# Altium integrated library Renesas Microcontroller H8.IntLib: 489 symbols (part 10 of 25)
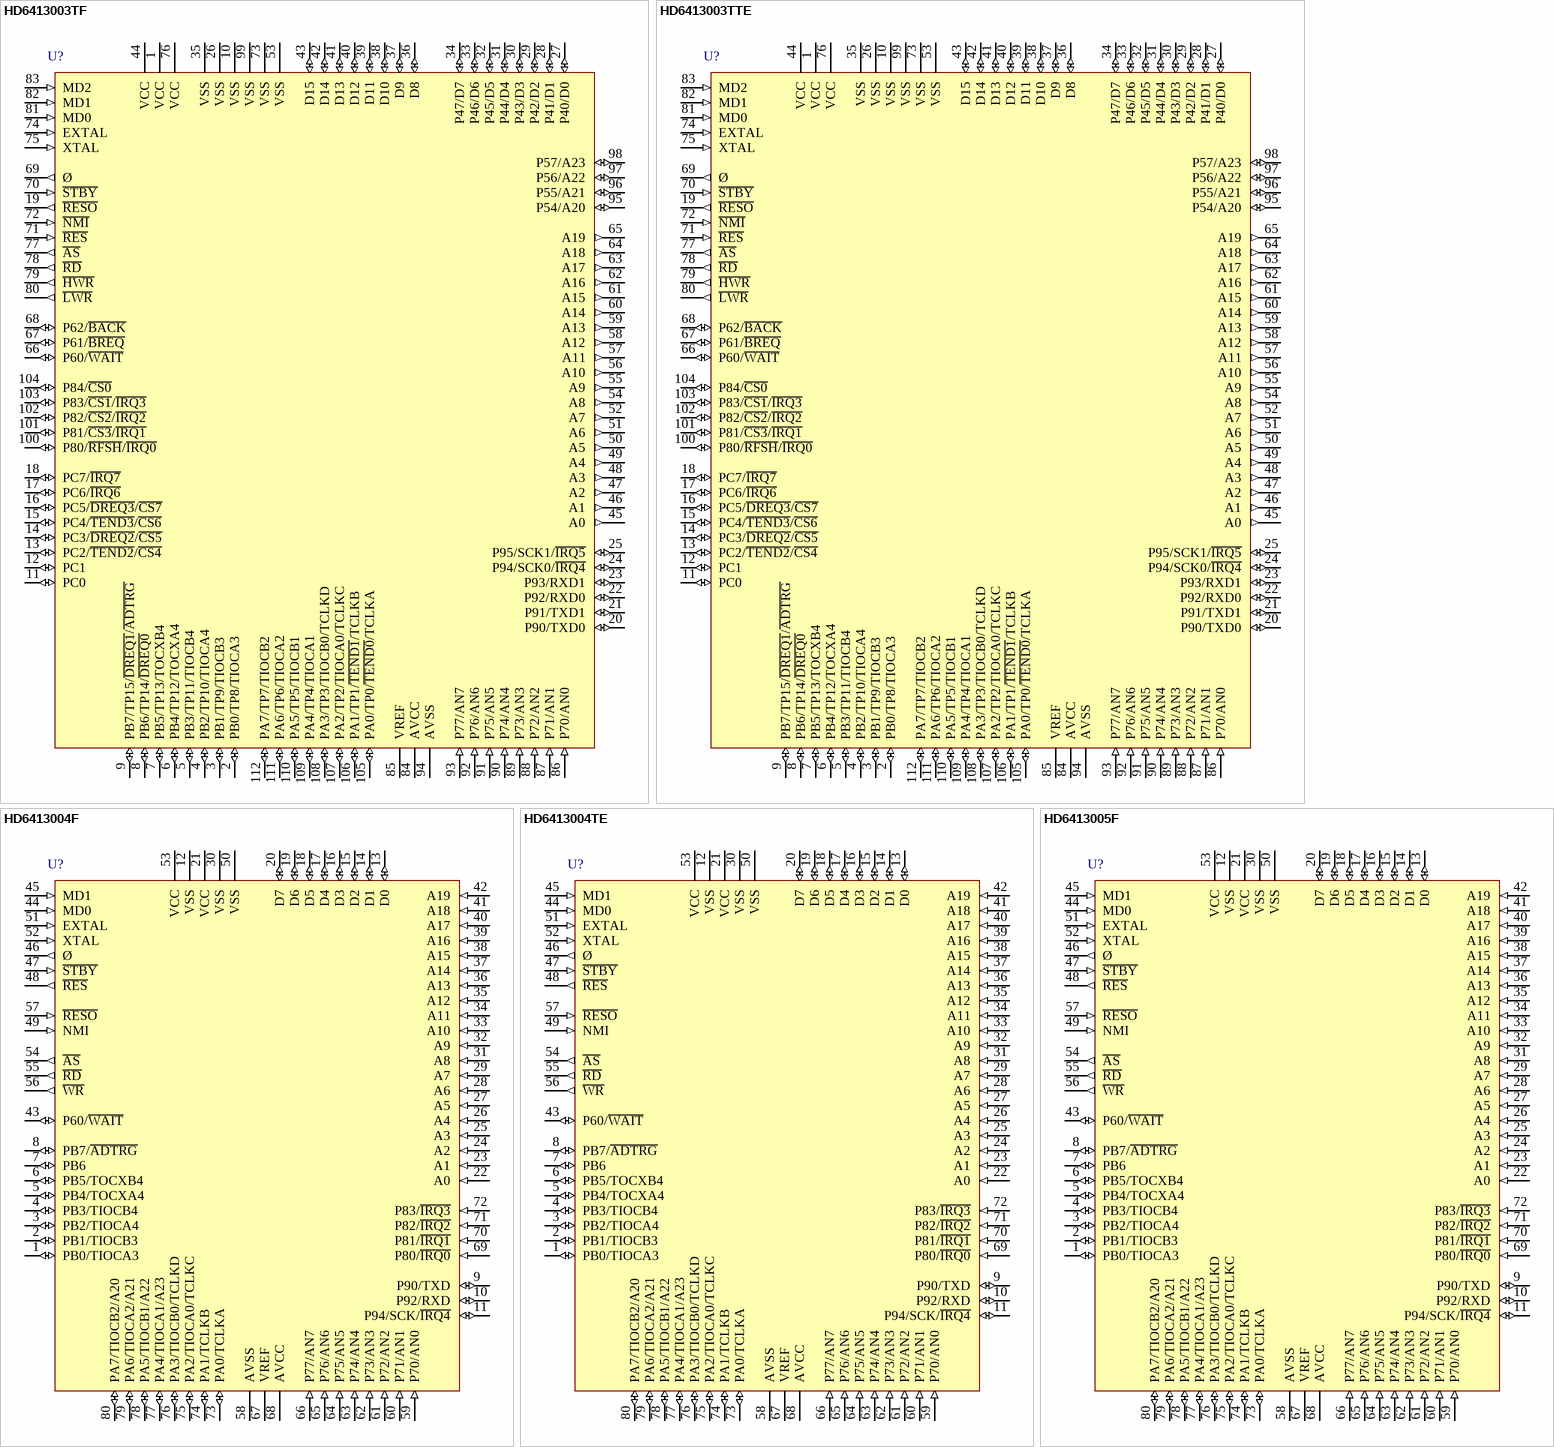
[diagram p97: symbols HD6413003TF to HD6413005F]

## HD6413003TTE
designator U?
H8 Family 32/16-bit CISC, H8/300H, 512 RAM, 16MHz, 4.5 to 5.5V, 120-Pin QFP; Published: 28-Aug-2009; DatasheetVersion: Rev.2.00, Apr-2003; PackageVersion: Sep-2005; PackageReference: PTQP0120LA-A; Publisher: Altium Limited; PackageDescription: 120-Pin Plastic Thin QFP, 14 x 14 x 1.0 mm Body, 0.4 mm Pitch; Code_JEITA: P-TQFP120-14x14-0.40; ComponentLink1Description: Manufacturer Link; ComponentLink1URL: http://sg.renesas.com/fmwk.jsp?cnt=h8_family_landing.jsp&fp=/products/mpumcu/h8_family/; ComponentLink2Description: Datasheet; ComponentLink2URL: http://documentation.renesas.com/eng/products/mpumcu/e602055_h83003.pdf; ComponentLink3Description: Packaging Specification; ComponentLink3URL: http://sg.renesas.com/media/products/common_info/package/pdf/ic/code/ptqp0120la_a.pdf
footprint PTQP0120LA-A_N (Thin QFP, 120-Leads, Body 14x14mm, Pitch 0.4mm, IPC Medium Density)
footprint PTQP0120LA-A_L (Thin QFP, 120-Leads, Body 14x14mm, Pitch 0.4mm, IPC High Density)
footprint PTQP0120LA-A_M (Thin QFP, 120-Leads, Body 14x14mm, Pitch 0.4mm, IPC Low Density)
pins: 1 VCC (power), 2 PB0/TP8/TIOCA3 (io), 3 PB1/TP9/TIOCB3 (io), 4 PB2/TP10/TIOCA4 (io), 5 PB3/TP11/TIOCB4 (io), 6 PB4/TP12/TOCXA4 (io), 7 PB5/TP13/TOCXB4 (io), 8 PB6/TP14/~{DREQ0} (io), 9 PB7/TP15/~{DREQ1}/~{ADTRG} (io), 10 VSS (power), 11 PC0 (io), 12 PC1 (io), 13 PC2/~{TEND2}/~{CS4} (io), 14 PC3/~{DREQ2}/~{CS5} (io), 15 PC4/~{TEND3}/~{CS6} (io), 16 PC5/~{DREQ3}/~{CS7} (io), 17 PC6/~{IRQ6} (io), 18 PC7/~{IRQ7} (io), 19 ~{RESO} (out), 20 P90/TXD0 (io), 21 P91/TXD1 (io), 22 P92/RXD0 (io), 23 P93/RXD1 (io), 24 P94/SCK0/~{IRQ4} (io), 25 P95/SCK1/~{IRQ5} (io), 26 VSS (power), 27 P40/D0 (io), 28 P41/D1 (io), 29 P42/D2 (io), 30 P43/D3 (io), 31 P44/D4 (io), 32 P45/D5 (io), 33 P46/D6 (io), 34 P47/D7 (io), 35 VSS (power), 36 D8 (io), 37 D9 (io), 38 D10 (io), 39 D11 (io), 40 D12 (io), 41 D13 (io), 42 D14 (io), 43 D15 (io), 44 VCC (power), 45 A0 (out), 46 A1 (out), 47 A2 (out), 48 A3 (out), 49 A4 (out), 50 A5 (out), 51 A6 (out), 52 A7 (out), 53 VSS (power), 54 A8 (out), 55 A9 (out), 56 A10 (out), 57 A11 (out), 58 A12 (out), 59 A13 (out), 60 A14 (out), 61 A15 (out), 62 A16 (out), 63 A17 (out), 64 A18 (out), 65 A19 (out), 66 P60/~{WAIT} (io), 67 P61/~{BREQ} (io), 68 P62/~{BACK} (io), 69 Ø (out), 70 ~{STBY} (in), 71 ~{RES} (in), 72 ~{NMI} (in), 73 VSS (power), 74 EXTAL (in), 75 XTAL (in), 76 VCC (power), 77 ~{AS} (out), 78 ~{RD} (out), 79 ~{HWR} (out), 80 ~{LWR} (out), 81 MD0 (in), 82 MD1 (in), 83 MD2 (in), 84 AVCC (power), 85 VREF (power), 86 P70/AN0 (in), 87 P71/AN1 (in), 88 P72/AN2 (in), 89 P73/AN3 (in), 90 P74/AN4 (in), 91 P75/AN5 (in), 92 P76/AN6 (in), 93 P77/AN7 (in), 94 AVSS (power), 95 P54/A20 (io), 96 P55/A21 (io), 97 P56/A22 (io), 98 P57/A23 (io), 99 VSS (power), 100 P80/~{RFSH}/~{IRQ0} (io), 101 P81/~{CS3}/~{IRQ1} (io), 102 P82/~{CS2}/~{IRQ2} (io), 103 P83/~{CS1}/~{IRQ3} (io), 104 P84/~{CS0} (io), 105 PA0/TP0/~{TEND0}/TCLKA (io), 106 PA1/TP1/~{TEND1}/TCLKB (io), 107 PA2/TP2/TIOCA0/TCLKC (io), 108 PA3/TP3/TIOCB0/TCLKD (io), 109 PA4/TP4/TIOCA1 (io), 110 PA5/TP5/TIOCB1 (io), 111 PA6/TP6/TIOCA2 (io), 112 PA7/TP7/TIOCB2 (io)

## HD6413004F
designator U?
H8 Family 32/16-bit CISC, H8/300H, 2K RAM, 18MHz, 4.5 to 5.5V, 80-Pin QFP; Published: 28-Aug-2009; DatasheetVersion: Sep-1995; PackageVersion: Sep-2005; PackageReference: PRQP0080JB-A; Publisher: Altium Limited; PackageDescription: 80-Pin Plastic Quad Flat Pack, 14 x 14 x 2.7 mm Body, 0.65 mm Pitch; Code_JEITA: P-QFP80-14x14-0.65; Code_IPC: QFP65P1720X1720-80; ComponentLink1Description: Manufacturer Link; ComponentLink1URL: http://sg.renesas.com/fmwk.jsp?cnt=h8_family_landing.jsp&fp=/products/mpumcu/h8_family/; ComponentLink2Description: Datasheet; ComponentLink2URL: http://documentation.renesas.com/eng/products/mpumcu/e602091_h83004.pdf; ComponentLink3Description: Packaging Specification; ComponentLink3URL: http://sg.renesas.com/media/products/common_info/package/pdf/ic/code/prqp0080jb_a.pdf
footprint PRQP0080JB-A_N (QFP, 80-Leads, Body 14x14mm, Pitch 0.65mm, IPC Medium Density)
footprint PRQP0080JB-A_L (QFP, 80-Leads, Body 14x14mm, Pitch 0.65mm, IPC High Density)
footprint PRQP0080JB-A_M (QFP, 80-Leads, Body 14x14mm, Pitch 0.65mm, IPC Low Density)
pins: 1 PB0/TIOCA3 (io), 2 PB1/TIOCB3 (io), 3 PB2/TIOCA4 (io), 4 PB3/TIOCB4 (io), 5 PB4/TOCXA4 (io), 6 PB5/TOCXB4 (io), 7 PB6 (io), 8 PB7/~{ADTRG} (io), 9 P90/TXD (io), 10 P92/RXD (io), 11 P94/SCK/~{IRQ4} (io), 12 VSS (power), 13 D0 (io), 14 D1 (io), 15 D2 (io), 16 D3 (io), 17 D4 (io), 18 D5 (io), 19 D6 (io), 20 D7 (io), 21 VCC (power), 22 A0 (in), 23 A1 (in), 24 A2 (in), 25 A3 (in), 26 A4 (in), 27 A5 (in), 28 A6 (in), 29 A7 (in), 30 VSS (power), 31 A8 (in), 32 A9 (in), 33 A10 (in), 34 A11 (in), 35 A12 (in), 36 A13 (in), 37 A14 (in), 38 A15 (in), 39 A16 (in), 40 A17 (in), 41 A18 (in), 42 A19 (in), 43 P60/~{WAIT} (io), 44 MD0 (in), 45 MD1 (in), 46 Ø (out), 47 ~{STBY} (in), 48 ~{RES} (out), 49 NMI (in), 50 VSS (power), 51 EXTAL (in), 52 XTAL (in), 53 VCC (power), 54 ~{AS} (out), 55 ~{RD} (out), 56 ~{WR} (out), 57 ~{RESO} (in), 58 AVSS (power), 59 P70/AN0 (in), 60 P71/AN1 (in), 61 P72/AN2 (in), 62 P73/AN3 (in), 63 P74/AN4 (in), 64 P75/AN5 (in), 65 P76/AN6 (in), 66 P77/AN7 (in), 67 VREF (power), 68 AVCC (power), 69 P80/~{IRQ0} (in), 70 P81/~{IRQ1} (in), 71 P82/~{IRQ2} (in), 72 P83/~{IRQ3} (in), 73 PA0/TCLKA (io), 74 PA1/TCLKB (io), 75 PA2/TIOCA0/TCLKC (io), 76 PA3/TIOCB0/TCLKD (io), 77 PA4/TIOCA1/A23 (io), 78 PA5/TIOCB1/A22 (io), 79 PA6/TIOCA2/A21 (io), 80 PA7/TIOCB2/A20 (io)

## HD6413004TE
designator U?
H8 Family 32/16-bit CISC, H8/300H, 2K RAM, 18MHz, 4.5 to 5.5V, 80-Pin QFP; Published: 28-Aug-2009; DatasheetVersion: Sep-1995; PackageVersion: Sep-2005; PackageReference: PTQP0080KC-A; Publisher: Altium Limited; PackageDescription: 80-Pin Plastic Thin Quad Flat Pack, 12 x 12 x 1.0 mm Body, 0.5 mm Pitch; Code_JEITA: P-TQFP80-12x12-0.50; ComponentLink1Description: Manufacturer Link; ComponentLink1URL: http://sg.renesas.com/fmwk.jsp?cnt=h8_family_landing.jsp&fp=/products/mpumcu/h8_family/; ComponentLink2Description: Datasheet; ComponentLink2URL: http://documentation.renesas.com/eng/products/mpumcu/e602091_h83004.pdf; ComponentLink3Description: Packaging Specification; ComponentLink3URL: http://sg.renesas.com/media/products/common_info/package/pdf/ic/code/ptqp0080kc_a.pdf
footprint PTQP0080KC-A_N (Thin QFP, 80-Leads, Body 12x12mm, Pitch 0.5mm, IPC Medium Density)
footprint PTQP0080KC-A_L (Thin QFP, 80-Leads, Body 12x12mm, Pitch 0.5mm, IPC High Density)
footprint PTQP0080KC-A_M (Thin QFP, 80-Leads, Body 12x12mm, Pitch 0.5mm, IPC Low Density)
pins: 1 PB0/TIOCA3 (io), 2 PB1/TIOCB3 (io), 3 PB2/TIOCA4 (io), 4 PB3/TIOCB4 (io), 5 PB4/TOCXA4 (io), 6 PB5/TOCXB4 (io), 7 PB6 (io), 8 PB7/~{ADTRG} (io), 9 P90/TXD (io), 10 P92/RXD (io), 11 P94/SCK/~{IRQ4} (io), 12 VSS (power), 13 D0 (io), 14 D1 (io), 15 D2 (io), 16 D3 (io), 17 D4 (io), 18 D5 (io), 19 D6 (io), 20 D7 (io), 21 VCC (power), 22 A0 (in), 23 A1 (in), 24 A2 (in), 25 A3 (in), 26 A4 (in), 27 A5 (in), 28 A6 (in), 29 A7 (in), 30 VSS (power), 31 A8 (in), 32 A9 (in), 33 A10 (in), 34 A11 (in), 35 A12 (in), 36 A13 (in), 37 A14 (in), 38 A15 (in), 39 A16 (in), 40 A17 (in), 41 A18 (in), 42 A19 (in), 43 P60/~{WAIT} (io), 44 MD0 (in), 45 MD1 (in), 46 Ø (out), 47 ~{STBY} (in), 48 ~{RES} (out), 49 NMI (in), 50 VSS (power), 51 EXTAL (in), 52 XTAL (in), 53 VCC (power), 54 ~{AS} (out), 55 ~{RD} (out), 56 ~{WR} (out), 57 ~{RESO} (in), 58 AVSS (power), 59 P70/AN0 (in), 60 P71/AN1 (in), 61 P72/AN2 (in), 62 P73/AN3 (in), 63 P74/AN4 (in), 64 P75/AN5 (in), 65 P76/AN6 (in), 66 P77/AN7 (in), 67 VREF (power), 68 AVCC (power), 69 P80/~{IRQ0} (in), 70 P81/~{IRQ1} (in), 71 P82/~{IRQ2} (in), 72 P83/~{IRQ3} (in), 73 PA0/TCLKA (io), 74 PA1/TCLKB (io), 75 PA2/TIOCA0/TCLKC (io), 76 PA3/TIOCB0/TCLKD (io), 77 PA4/TIOCA1/A23 (io), 78 PA5/TIOCB1/A22 (io), 79 PA6/TIOCA2/A21 (io), 80 PA7/TIOCB2/A20 (io)

## HD6413005F
designator U?
H8 Family 32/16-bit CISC, H8/300H, 4K RAM, 18MHz, 4.5 to 5.5V, 80-Pin QFP; Published: 28-Aug-2009; DatasheetVersion: Sep-1995; PackageVersion: Sep-2005; PackageReference: PRQP0080JB-A; Publisher: Altium Limited; PackageDescription: 80-Pin Plastic Quad Flat Pack, 14 x 14 x 2.7 mm Body, 0.65 mm Pitch; Code_JEITA: P-QFP80-14x14-0.65; Code_IPC: QFP65P1720X1720-80; ComponentLink1Description: Manufacturer Link; ComponentLink1URL: http://sg.renesas.com/fmwk.jsp?cnt=h8_family_landing.jsp&fp=/products/mpumcu/h8_family/; ComponentLink2Description: Datasheet; ComponentLink2URL: http://documentation.renesas.com/eng/products/mpumcu/e602091_h83004.pdf; ComponentLink3Description: Packaging Specification; ComponentLink3URL: http://sg.renesas.com/media/products/common_info/package/pdf/ic/code/prqp0080jb_a.pdf
footprint PRQP0080JB-A_N (QFP, 80-Leads, Body 14x14mm, Pitch 0.65mm, IPC Medium Density)
footprint PRQP0080JB-A_L (QFP, 80-Leads, Body 14x14mm, Pitch 0.65mm, IPC High Density)
footprint PRQP0080JB-A_M (QFP, 80-Leads, Body 14x14mm, Pitch 0.65mm, IPC Low Density)
pins: 1 PB0/TIOCA3 (io), 2 PB1/TIOCB3 (io), 3 PB2/TIOCA4 (io), 4 PB3/TIOCB4 (io), 5 PB4/TOCXA4 (io), 6 PB5/TOCXB4 (io), 7 PB6 (io), 8 PB7/~{ADTRG} (io), 9 P90/TXD (io), 10 P92/RXD (io), 11 P94/SCK/~{IRQ4} (io), 12 VSS (power), 13 D0 (io), 14 D1 (io), 15 D2 (io), 16 D3 (io), 17 D4 (io), 18 D5 (io), 19 D6 (io), 20 D7 (io), 21 VCC (power), 22 A0 (in), 23 A1 (in), 24 A2 (in), 25 A3 (in), 26 A4 (in), 27 A5 (in), 28 A6 (in), 29 A7 (in), 30 VSS (power), 31 A8 (in), 32 A9 (in), 33 A10 (in), 34 A11 (in), 35 A12 (in), 36 A13 (in), 37 A14 (in), 38 A15 (in), 39 A16 (in), 40 A17 (in), 41 A18 (in), 42 A19 (in), 43 P60/~{WAIT} (io), 44 MD0 (in), 45 MD1 (in), 46 Ø (out), 47 ~{STBY} (in), 48 ~{RES} (out), 49 NMI (in), 50 VSS (power), 51 EXTAL (in), 52 XTAL (in), 53 VCC (power), 54 ~{AS} (out), 55 ~{RD} (out), 56 ~{WR} (out), 57 ~{RESO} (in), 58 AVSS (power), 59 P70/AN0 (in), 60 P71/AN1 (in), 61 P72/AN2 (in), 62 P73/AN3 (in), 63 P74/AN4 (in), 64 P75/AN5 (in), 65 P76/AN6 (in), 66 P77/AN7 (in), 67 VREF (power), 68 AVCC (power), 69 P80/~{IRQ0} (in), 70 P81/~{IRQ1} (in), 71 P82/~{IRQ2} (in), 72 P83/~{IRQ3} (in), 73 PA0/TCLKA (io), 74 PA1/TCLKB (io), 75 PA2/TIOCA0/TCLKC (io), 76 PA3/TIOCB0/TCLKD (io), 77 PA4/TIOCA1/A23 (io), 78 PA5/TIOCB1/A22 (io), 79 PA6/TIOCA2/A21 (io), 80 PA7/TIOCB2/A20 (io)

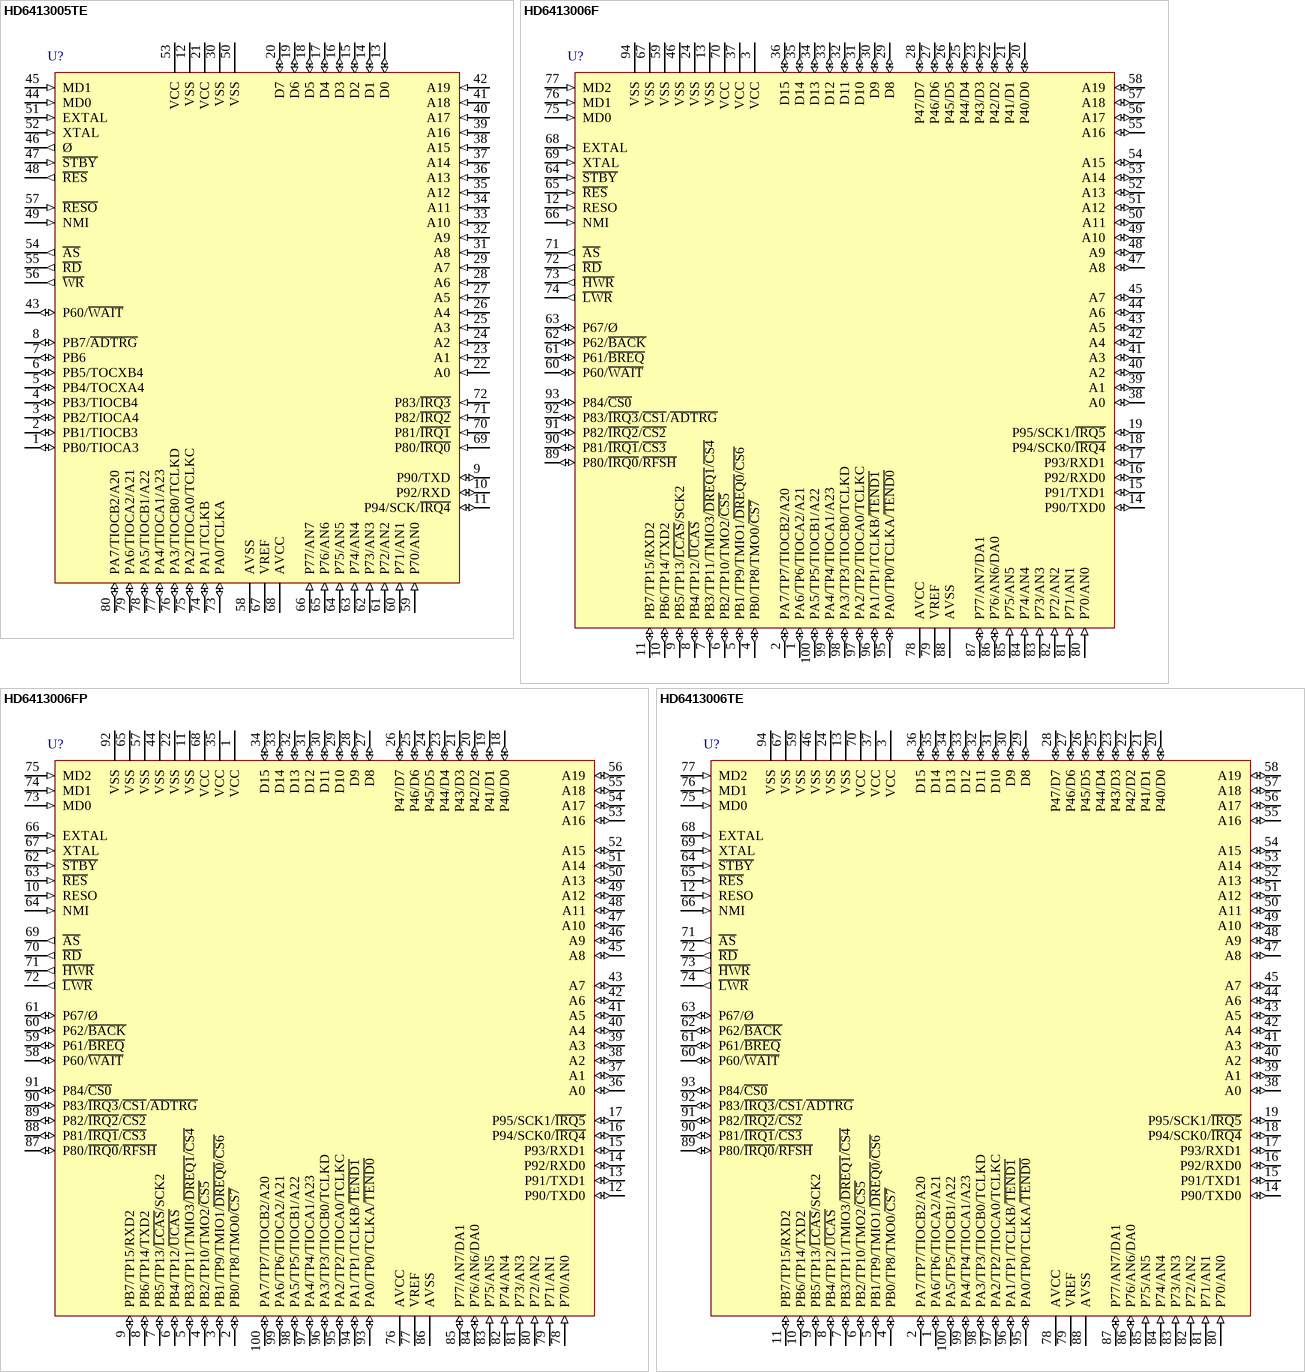
[diagram p33: symbols HD6413005TE to HD6413006TE]

## HD6413005TE
designator U?
H8 Family 32/16-bit CISC, H8/300H, 4K RAM, 18MHz, 4.5 to 5.5V, 80-Pin QFP; Published: 28-Aug-2009; DatasheetVersion: Sep-1995; PackageVersion: Sep-2005; PackageReference: PTQP0080KC-A; Publisher: Altium Limited; PackageDescription: 80-Pin Plastic Thin Quad Flat Pack, 12 x 12 x 1.0 mm Body, 0.5 mm Pitch; Code_JEITA: P-TQFP80-12x12-0.50; ComponentLink1Description: Manufacturer Link; ComponentLink1URL: http://sg.renesas.com/fmwk.jsp?cnt=h8_family_landing.jsp&fp=/products/mpumcu/h8_family/; ComponentLink2Description: Datasheet; ComponentLink2URL: http://documentation.renesas.com/eng/products/mpumcu/e602091_h83004.pdf; ComponentLink3Description: Packaging Specification; ComponentLink3URL: http://sg.renesas.com/media/products/common_info/package/pdf/ic/code/ptqp0080kc_a.pdf
footprint PTQP0080KC-A_N (Thin QFP, 80-Leads, Body 12x12mm, Pitch 0.5mm, IPC Medium Density)
footprint PTQP0080KC-A_L (Thin QFP, 80-Leads, Body 12x12mm, Pitch 0.5mm, IPC High Density)
footprint PTQP0080KC-A_M (Thin QFP, 80-Leads, Body 12x12mm, Pitch 0.5mm, IPC Low Density)
pins: 1 PB0/TIOCA3 (io), 2 PB1/TIOCB3 (io), 3 PB2/TIOCA4 (io), 4 PB3/TIOCB4 (io), 5 PB4/TOCXA4 (io), 6 PB5/TOCXB4 (io), 7 PB6 (io), 8 PB7/~{ADTRG} (io), 9 P90/TXD (io), 10 P92/RXD (io), 11 P94/SCK/~{IRQ4} (io), 12 VSS (power), 13 D0 (io), 14 D1 (io), 15 D2 (io), 16 D3 (io), 17 D4 (io), 18 D5 (io), 19 D6 (io), 20 D7 (io), 21 VCC (power), 22 A0 (in), 23 A1 (in), 24 A2 (in), 25 A3 (in), 26 A4 (in), 27 A5 (in), 28 A6 (in), 29 A7 (in), 30 VSS (power), 31 A8 (in), 32 A9 (in), 33 A10 (in), 34 A11 (in), 35 A12 (in), 36 A13 (in), 37 A14 (in), 38 A15 (in), 39 A16 (in), 40 A17 (in), 41 A18 (in), 42 A19 (in), 43 P60/~{WAIT} (io), 44 MD0 (in), 45 MD1 (in), 46 Ø (out), 47 ~{STBY} (in), 48 ~{RES} (out), 49 NMI (in), 50 VSS (power), 51 EXTAL (in), 52 XTAL (in), 53 VCC (power), 54 ~{AS} (out), 55 ~{RD} (out), 56 ~{WR} (out), 57 ~{RESO} (in), 58 AVSS (power), 59 P70/AN0 (in), 60 P71/AN1 (in), 61 P72/AN2 (in), 62 P73/AN3 (in), 63 P74/AN4 (in), 64 P75/AN5 (in), 65 P76/AN6 (in), 66 P77/AN7 (in), 67 VREF (power), 68 AVCC (power), 69 P80/~{IRQ0} (in), 70 P81/~{IRQ1} (in), 71 P82/~{IRQ2} (in), 72 P83/~{IRQ3} (in), 73 PA0/TCLKA (io), 74 PA1/TCLKB (io), 75 PA2/TIOCA0/TCLKC (io), 76 PA3/TIOCB0/TCLKD (io), 77 PA4/TIOCA1/A23 (io), 78 PA5/TIOCB1/A22 (io), 79 PA6/TIOCA2/A21 (io), 80 PA7/TIOCB2/A20 (io)

## HD6413006F
designator U?
H8 Family 32/16-bit CISC, H8/300H, 2K RAM, 20MHz, 4.5 to 5.5V, 100-Pin QFP; Published: 28-Aug-2009; DatasheetVersion: Rev.5.00, Sep-2007; PackageVersion: Sep-2009; PackageReference: PRQP0100KA-A; Publisher: Altium Limited; PackageDescription: 100-Pin Plastic Quad Flat Pack, 14 x 14 x 2.7 mm Body, 0.5 mm Pitch; Code_JEITA: P-QFP100-14x14-0.50; ComponentLink1Description: Manufacturer Link; ComponentLink1URL: http://sg.renesas.com/fmwk.jsp?cnt=h8_family_landing.jsp&fp=/products/mpumcu/h8_family/; ComponentLink2Description: Datasheet; ComponentLink2URL: http://documentation.renesas.com/eng/products/mpumcu/rej09b0396_3006_7hm.pdf; ComponentLink3Description: Packaging Specification; ComponentLink3URL: http://sg.renesas.com/media/products/common_info/package/pdf/ic/code/prqp0100ka_a.pdf
footprint PRQP0100KA-A_N (Shrink QFP, 100-Leads, Body 14x14mm, Pitch 0.5mm, IPC Medium Density)
footprint PRQP0100KA-A_L (Shrink QFP, 100-Leads, Body 14x14mm, Pitch 0.5mm, IPC High Density)
footprint PRQP0100KA-A_M (Shrink QFP, 100-Leads, Body 14x14mm, Pitch 0.5mm, IPC Low Density)
pins: 1 PA6/TP6/TIOCA2/A21 (io), 2 PA7/TP7/TIOCB2/A20 (io), 3 VCC (power), 4 PB0/TP8/TMO0/~{CS7} (io), 5 PB1/TP9/TMIO1/~{DREQ0}/~{CS6} (io), 6 PB2/TP10/TMO2/~{CS5} (io), 7 PB3/TP11/TMIO3/~{DREQ1}/~{CS4} (io), 8 PB4/TP12/~{UCAS} (io), 9 PB5/TP13/~{LCAS}/SCK2 (io), 10 PB6/TP14/TXD2 (io), 11 PB7/TP15/RXD2 (io), 12 RESO (in), 13 VSS (power), 14 P90/TXD0 (io), 15 P91/TXD1 (io), 16 P92/RXD0 (io), 17 P93/RXD1 (io), 18 P94/SCK0/~{IRQ4} (io), 19 P95/SCK1/~{IRQ5} (io), 20 P40/D0 (io), 21 P41/D1 (io), 22 P42/D2 (io), 23 P43/D3 (io), 24 VSS (power), 25 P44/D4 (io), 26 P45/D5 (io), 27 P46/D6 (io), 28 P47/D7 (io), 29 D8 (io), 30 D9 (io), 31 D10 (io), 32 D11 (io), 33 D12 (io), 34 D13 (io), 35 D14 (io), 36 D15 (io), 37 VCC (power), 38 A0 (io), 39 A1 (io), 40 A2 (io), 41 A3 (io), 42 A4 (io), 43 A5 (io), 44 A6 (io), 45 A7 (io), 46 VSS (power), 47 A8 (io), 48 A9 (io), 49 A10 (io), 50 A11 (io), 51 A12 (io), 52 A13 (io), 53 A14 (io), 54 A15 (io), 55 A16 (io), 56 A17 (io), 57 A18 (io), 58 A19 (io), 59 VSS (power), 60 P60/~{WAIT} (io), 61 P61/~{BREQ} (io), 62 P62/~{BACK} (io), 63 P67/Ø (io), 64 ~{STBY} (in), 65 ~{RES} (in), 66 NMI (in), 67 VSS (power), 68 EXTAL (in), 69 XTAL (in), 70 VCC (power), 71 ~{AS} (out), 72 ~{RD} (out), 73 ~{HWR} (out), 74 ~{LWR} (out), 75 MD0 (in), 76 MD1 (in), 77 MD2 (in), 78 AVCC (power), 79 VREF (power), 80 P70/AN0 (in), 81 P71/AN1 (in), 82 P72/AN2 (in), 83 P73/AN3 (in), 84 P74/AN4 (in), 85 P75/AN5 (in), 86 P76/AN6/DA0 (io), 87 P77/AN7/DA1 (io), 88 AVSS (power), 89 P80/~{IRQ0}/~{RFSH} (io), 90 P81/~{IRQ1}/~{CS3} (io), 91 P82/~{IRQ2}/~{CS2} (io), 92 P83/~{IRQ3}/~{CS1}/~{ADTRG} (io), 93 P84/~{CS0} (io), 94 VSS (power), 95 PA0/TP0/TCLKA/~{TEND0} (io), 96 PA1/TP1/TCLKB/~{TEND1} (io), 97 PA2/TP2/TIOCA0/TCLKC (io), 98 PA3/TP3/TIOCB0/TCLKD (io), 99 PA4/TP4/TIOCA1/A23 (io), 100 PA5/TP5/TIOCB1/A22 (io)

## HD6413006FP
designator U?
H8 Family 32/16-bit CISC, H8/300H, 2K RAM, 20MHz, 4.5 to 5.5V, 100-Pin QFP; Published: 28-Aug-2009; DatasheetVersion: Rev.5.00, Sep-2007; PackageVersion: Sep-2005; PackageReference: PRQP0100JE-B; Publisher: Altium Limited; PackageDescription: 100-Pin Plastic Quad Flat Pack, 20 x 14 x 2.7 mm Body, 0.65 mm Pitch; Code_JEITA: P-QFP100-14x20-0.65; ComponentLink1Description: Manufacturer Link; ComponentLink1URL: http://sg.renesas.com/fmwk.jsp?cnt=h8_family_landing.jsp&fp=/products/mpumcu/h8_family/; ComponentLink2Description: Datasheet; ComponentLink2URL: http://documentation.renesas.com/eng/products/mpumcu/rej09b0396_3006_7hm.pdf; ComponentLink3Description: Packaging Specification; ComponentLink3URL: http://sg.renesas.com/media/products/common_info/package/pdf/ic/code/prqp0100je_b.pdf
footprint PRQP0100JE-B_N (QFP, 100-Leads, Body 20x14mm, Pitch 0.65mm, IPC Medium Density)
footprint PRQP0100JE-B_L (QFP, 100-Leads, Body 20x14mm, Pitch 0.65mm, IPC High Density)
footprint PRQP0100JE-B_M (QFP, 100-Leads, Body 20x14mm, Pitch 0.65mm, IPC Low Density)
pins: 1 VCC (power), 2 PB0/TP8/TMO0/~{CS7} (io), 3 PB1/TP9/TMIO1/~{DREQ0}/~{CS6} (io), 4 PB2/TP10/TMO2/~{CS5} (io), 5 PB3/TP11/TMIO3/~{DREQ1}/~{CS4} (io), 6 PB4/TP12/~{UCAS} (io), 7 PB5/TP13/~{LCAS}/SCK2 (io), 8 PB6/TP14/TXD2 (io), 9 PB7/TP15/RXD2 (io), 10 RESO (in), 11 VSS (power), 12 P90/TXD0 (io), 13 P91/TXD1 (io), 14 P92/RXD0 (io), 15 P93/RXD1 (io), 16 P94/SCK0/~{IRQ4} (io), 17 P95/SCK1/~{IRQ5} (io), 18 P40/D0 (io), 19 P41/D1 (io), 20 P42/D2 (io), 21 P43/D3 (io), 22 VSS (power), 23 P44/D4 (io), 24 P45/D5 (io), 25 P46/D6 (io), 26 P47/D7 (io), 27 D8 (io), 28 D9 (io), 29 D10 (io), 30 D11 (io), 31 D12 (io), 32 D13 (io), 33 D14 (io), 34 D15 (io), 35 VCC (power), 36 A0 (io), 37 A1 (io), 38 A2 (io), 39 A3 (io), 40 A4 (io), 41 A5 (io), 42 A6 (io), 43 A7 (io), 44 VSS (power), 45 A8 (io), 46 A9 (io), 47 A10 (io), 48 A11 (io), 49 A12 (io), 50 A13 (io), 51 A14 (io), 52 A15 (io), 53 A16 (io), 54 A17 (io), 55 A18 (io), 56 A19 (io), 57 VSS (power), 58 P60/~{WAIT} (io), 59 P61/~{BREQ} (io), 60 P62/~{BACK} (io), 61 P67/Ø (io), 62 ~{STBY} (in), 63 ~{RES} (in), 64 NMI (in), 65 VSS (power), 66 EXTAL (in), 67 XTAL (in), 68 VCC (power), 69 ~{AS} (out), 70 ~{RD} (out), 71 ~{HWR} (out), 72 ~{LWR} (out), 73 MD0 (in), 74 MD1 (in), 75 MD2 (in), 76 AVCC (power), 77 VREF (power), 78 P70/AN0 (in), 79 P71/AN1 (in), 80 P72/AN2 (in), 81 P73/AN3 (in), 82 P74/AN4 (in), 83 P75/AN5 (in), 84 P76/AN6/DA0 (io), 85 P77/AN7/DA1 (io), 86 AVSS (power), 87 P80/~{IRQ0}/~{RFSH} (io), 88 P81/~{IRQ1}/~{CS3} (io), 89 P82/~{IRQ2}/~{CS2} (io), 90 P83/~{IRQ3}/~{CS1}/~{ADTRG} (io), 91 P84/~{CS0} (io), 92 VSS (power), 93 PA0/TP0/TCLKA/~{TEND0} (io), 94 PA1/TP1/TCLKB/~{TEND1} (io), 95 PA2/TP2/TIOCA0/TCLKC (io), 96 PA3/TP3/TIOCB0/TCLKD (io), 97 PA4/TP4/TIOCA1/A23 (io), 98 PA5/TP5/TIOCB1/A22 (io), 99 PA6/TP6/TIOCA2/A21 (io), 100 PA7/TP7/TIOCB2/A20 (io)

## HD6413006TE
designator U?
H8 Family 32/16-bit CISC, H8/300H, 2K RAM, 20MHz, 4.5 to 5.5V, 100-Pin QFP; Published: 28-Aug-2009; DatasheetVersion: Rev.5.00, Sep-2007; PackageVersion: Sep-2005; PackageReference: PTQP0100KA-A; Publisher: Altium Limited; PackageDescription: 100-Pin Plastic Thin Quad Flat Pack, 14 x 14 x 1.0 mm Body, 0.5 mm Pitch; Code_JEITA: P-TQFP100-14x14-0.50; ComponentLink1Description: Manufacturer Link; ComponentLink1URL: http://sg.renesas.com/fmwk.jsp?cnt=h8_family_landing.jsp&fp=/products/mpumcu/h8_family/; ComponentLink2Description: Datasheet; ComponentLink2URL: http://documentation.renesas.com/eng/products/mpumcu/rej09b0396_3006_7hm.pdf; ComponentLink3Description: Packaging Specification; ComponentLink3URL: http://sg.renesas.com/media/products/common_info/package/pdf/ic/code/ptqp0100ka_a.pdf
footprint PTQP0100KA-A_N (Thin QFP, 100-Leads, Body 14x14mm, Pitch 0.5mm, IPC Medium Density)
footprint PTQP0100KA-A_L (Thin QFP, 100-Leads, Body 14x14mm, Pitch 0.5mm, IPC High Density)
footprint PTQP0100KA-A_M (Thin QFP, 100-Leads, Body 14x14mm, Pitch 0.5mm, IPC Low Density)
pins: 1 PA6/TP6/TIOCA2/A21 (io), 2 PA7/TP7/TIOCB2/A20 (io), 3 VCC (power), 4 PB0/TP8/TMO0/~{CS7} (io), 5 PB1/TP9/TMIO1/~{DREQ0}/~{CS6} (io), 6 PB2/TP10/TMO2/~{CS5} (io), 7 PB3/TP11/TMIO3/~{DREQ1}/~{CS4} (io), 8 PB4/TP12/~{UCAS} (io), 9 PB5/TP13/~{LCAS}/SCK2 (io), 10 PB6/TP14/TXD2 (io), 11 PB7/TP15/RXD2 (io), 12 RESO (in), 13 VSS (power), 14 P90/TXD0 (io), 15 P91/TXD1 (io), 16 P92/RXD0 (io), 17 P93/RXD1 (io), 18 P94/SCK0/~{IRQ4} (io), 19 P95/SCK1/~{IRQ5} (io), 20 P40/D0 (io), 21 P41/D1 (io), 22 P42/D2 (io), 23 P43/D3 (io), 24 VSS (power), 25 P44/D4 (io), 26 P45/D5 (io), 27 P46/D6 (io), 28 P47/D7 (io), 29 D8 (io), 30 D9 (io), 31 D10 (io), 32 D11 (io), 33 D12 (io), 34 D13 (io), 35 D14 (io), 36 D15 (io), 37 VCC (power), 38 A0 (io), 39 A1 (io), 40 A2 (io), 41 A3 (io), 42 A4 (io), 43 A5 (io), 44 A6 (io), 45 A7 (io), 46 VSS (power), 47 A8 (io), 48 A9 (io), 49 A10 (io), 50 A11 (io), 51 A12 (io), 52 A13 (io), 53 A14 (io), 54 A15 (io), 55 A16 (io), 56 A17 (io), 57 A18 (io), 58 A19 (io), 59 VSS (power), 60 P60/~{WAIT} (io), 61 P61/~{BREQ} (io), 62 P62/~{BACK} (io), 63 P67/Ø (io), 64 ~{STBY} (in), 65 ~{RES} (in), 66 NMI (in), 67 VSS (power), 68 EXTAL (in), 69 XTAL (in), 70 VCC (power), 71 ~{AS} (out), 72 ~{RD} (out), 73 ~{HWR} (out), 74 ~{LWR} (out), 75 MD0 (in), 76 MD1 (in), 77 MD2 (in), 78 AVCC (power), 79 VREF (power), 80 P70/AN0 (in), 81 P71/AN1 (in), 82 P72/AN2 (in), 83 P73/AN3 (in), 84 P74/AN4 (in), 85 P75/AN5 (in), 86 P76/AN6/DA0 (io), 87 P77/AN7/DA1 (io), 88 AVSS (power), 89 P80/~{IRQ0}/~{RFSH} (io), 90 P81/~{IRQ1}/~{CS3} (io), 91 P82/~{IRQ2}/~{CS2} (io), 92 P83/~{IRQ3}/~{CS1}/~{ADTRG} (io), 93 P84/~{CS0} (io), 94 VSS (power), 95 PA0/TP0/TCLKA/~{TEND0} (io), 96 PA1/TP1/TCLKB/~{TEND1} (io), 97 PA2/TP2/TIOCA0/TCLKC (io), 98 PA3/TP3/TIOCB0/TCLKD (io), 99 PA4/TP4/TIOCA1/A23 (io), 100 PA5/TP5/TIOCB1/A22 (io)

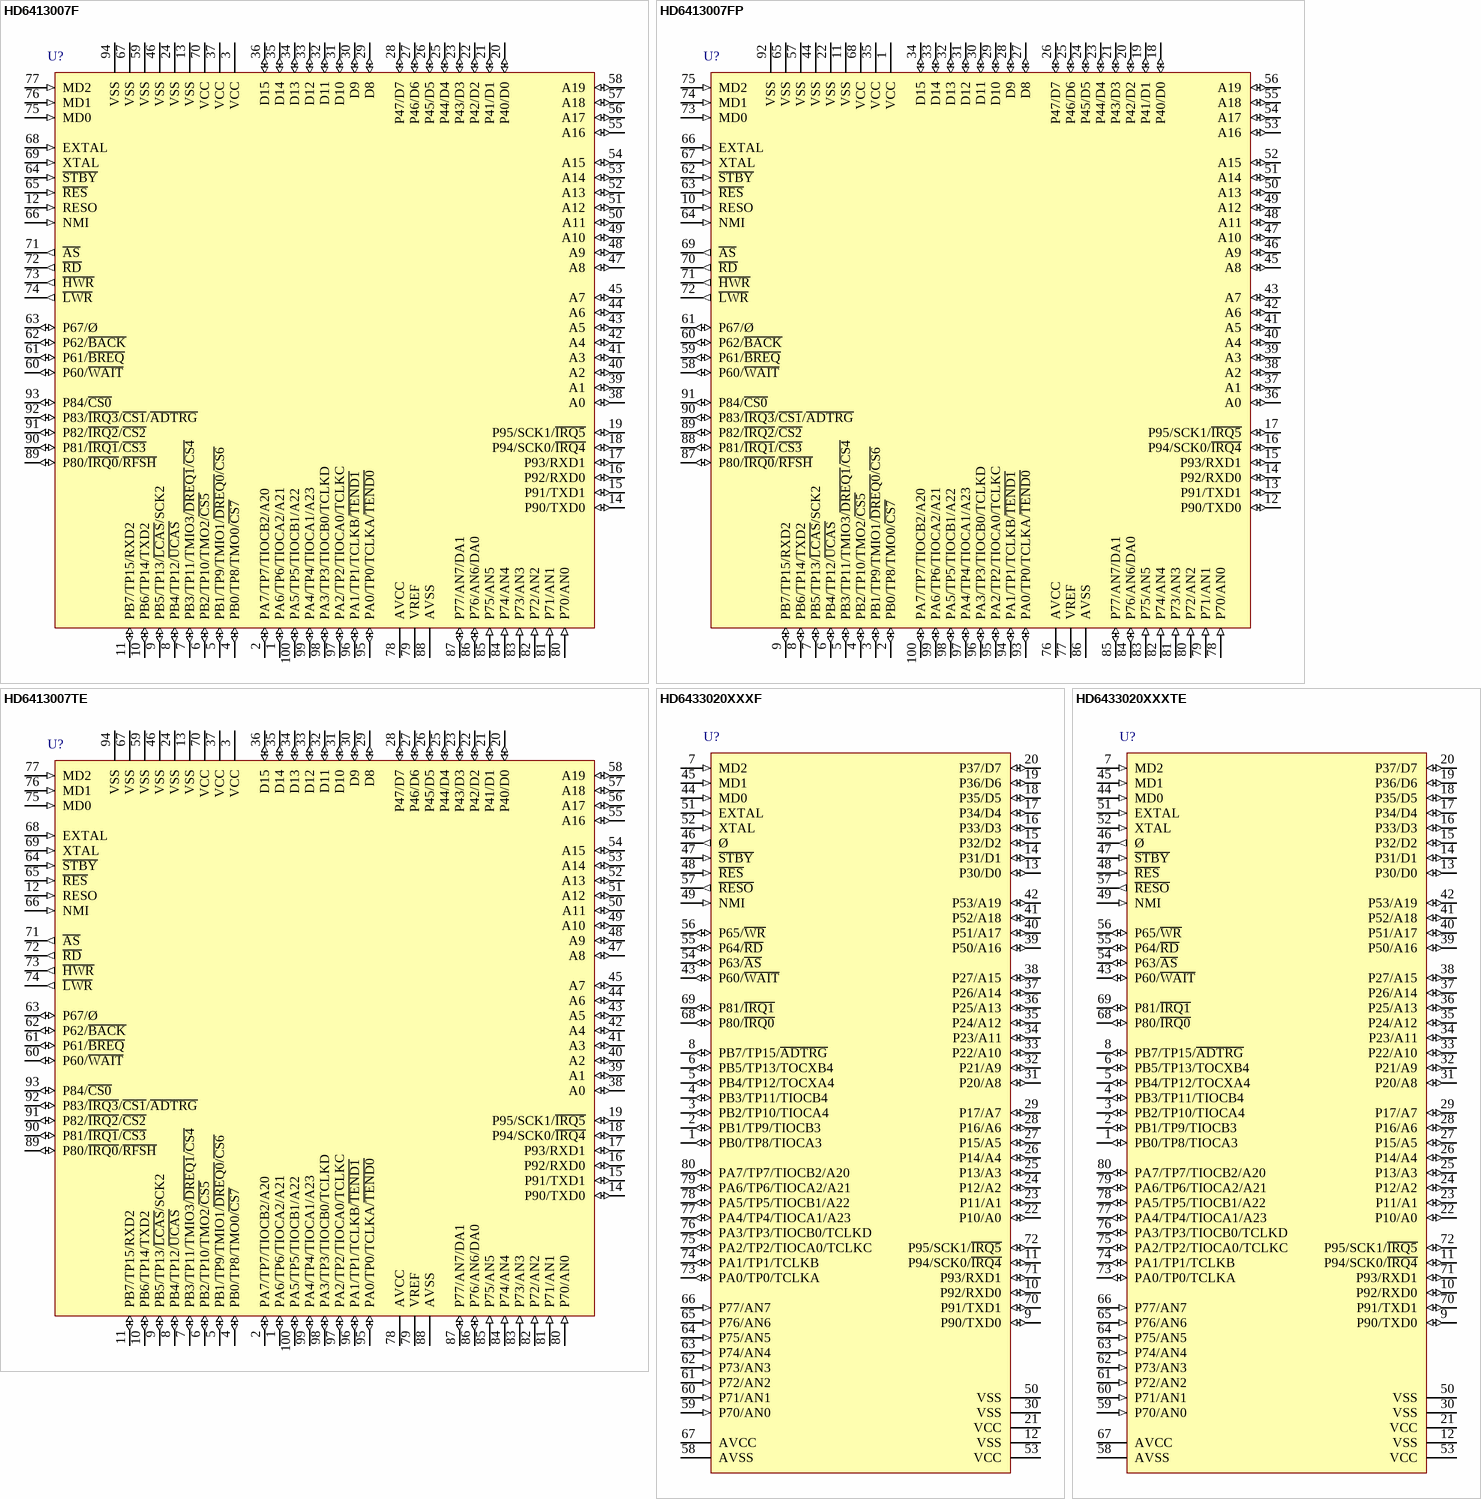
[diagram p34: symbols HD6413007F to HD6433020XXXTE]

## HD6413007F
designator U?
H8 Family 32/16-bit CISC, H8/300H, 4K RAM, 20MHz, 4.5 to 5.5V, 100-Pin QFP; Published: 28-Aug-2009; DatasheetVersion: Rev.5.00, Sep-2007; PackageVersion: Sep-2009; PackageReference: PRQP0100KA-A; Publisher: Altium Limited; PackageDescription: 100-Pin Plastic Quad Flat Pack, 14 x 14 x 2.7 mm Body, 0.5 mm Pitch; Code_JEITA: P-QFP100-14x14-0.50; ComponentLink1Description: Manufacturer Link; ComponentLink1URL: http://sg.renesas.com/fmwk.jsp?cnt=h8_family_landing.jsp&fp=/products/mpumcu/h8_family/; ComponentLink2Description: Datasheet; ComponentLink2URL: http://documentation.renesas.com/eng/products/mpumcu/rej09b0396_3006_7hm.pdf; ComponentLink3Description: Packaging Specification; ComponentLink3URL: http://sg.renesas.com/media/products/common_info/package/pdf/ic/code/prqp0100ka_a.pdf
footprint PRQP0100KA-A_N (Shrink QFP, 100-Leads, Body 14x14mm, Pitch 0.5mm, IPC Medium Density)
footprint PRQP0100KA-A_L (Shrink QFP, 100-Leads, Body 14x14mm, Pitch 0.5mm, IPC High Density)
footprint PRQP0100KA-A_M (Shrink QFP, 100-Leads, Body 14x14mm, Pitch 0.5mm, IPC Low Density)
pins: 1 PA6/TP6/TIOCA2/A21 (io), 2 PA7/TP7/TIOCB2/A20 (io), 3 VCC (power), 4 PB0/TP8/TMO0/~{CS7} (io), 5 PB1/TP9/TMIO1/~{DREQ0}/~{CS6} (io), 6 PB2/TP10/TMO2/~{CS5} (io), 7 PB3/TP11/TMIO3/~{DREQ1}/~{CS4} (io), 8 PB4/TP12/~{UCAS} (io), 9 PB5/TP13/~{LCAS}/SCK2 (io), 10 PB6/TP14/TXD2 (io), 11 PB7/TP15/RXD2 (io), 12 RESO (in), 13 VSS (power), 14 P90/TXD0 (io), 15 P91/TXD1 (io), 16 P92/RXD0 (io), 17 P93/RXD1 (io), 18 P94/SCK0/~{IRQ4} (io), 19 P95/SCK1/~{IRQ5} (io), 20 P40/D0 (io), 21 P41/D1 (io), 22 P42/D2 (io), 23 P43/D3 (io), 24 VSS (power), 25 P44/D4 (io), 26 P45/D5 (io), 27 P46/D6 (io), 28 P47/D7 (io), 29 D8 (io), 30 D9 (io), 31 D10 (io), 32 D11 (io), 33 D12 (io), 34 D13 (io), 35 D14 (io), 36 D15 (io), 37 VCC (power), 38 A0 (io), 39 A1 (io), 40 A2 (io), 41 A3 (io), 42 A4 (io), 43 A5 (io), 44 A6 (io), 45 A7 (io), 46 VSS (power), 47 A8 (io), 48 A9 (io), 49 A10 (io), 50 A11 (io), 51 A12 (io), 52 A13 (io), 53 A14 (io), 54 A15 (io), 55 A16 (io), 56 A17 (io), 57 A18 (io), 58 A19 (io), 59 VSS (power), 60 P60/~{WAIT} (io), 61 P61/~{BREQ} (io), 62 P62/~{BACK} (io), 63 P67/Ø (io), 64 ~{STBY} (in), 65 ~{RES} (in), 66 NMI (in), 67 VSS (power), 68 EXTAL (in), 69 XTAL (in), 70 VCC (power), 71 ~{AS} (out), 72 ~{RD} (out), 73 ~{HWR} (out), 74 ~{LWR} (out), 75 MD0 (in), 76 MD1 (in), 77 MD2 (in), 78 AVCC (power), 79 VREF (power), 80 P70/AN0 (in), 81 P71/AN1 (in), 82 P72/AN2 (in), 83 P73/AN3 (in), 84 P74/AN4 (in), 85 P75/AN5 (in), 86 P76/AN6/DA0 (io), 87 P77/AN7/DA1 (io), 88 AVSS (power), 89 P80/~{IRQ0}/~{RFSH} (io), 90 P81/~{IRQ1}/~{CS3} (io), 91 P82/~{IRQ2}/~{CS2} (io), 92 P83/~{IRQ3}/~{CS1}/~{ADTRG} (io), 93 P84/~{CS0} (io), 94 VSS (power), 95 PA0/TP0/TCLKA/~{TEND0} (io), 96 PA1/TP1/TCLKB/~{TEND1} (io), 97 PA2/TP2/TIOCA0/TCLKC (io), 98 PA3/TP3/TIOCB0/TCLKD (io), 99 PA4/TP4/TIOCA1/A23 (io), 100 PA5/TP5/TIOCB1/A22 (io)

## HD6413007FP
designator U?
H8 Family 32/16-bit CISC, H8/300H, 4K RAM, 20MHz, 4.5 to 5.5V, 100-Pin QFP; Published: 28-Aug-2009; DatasheetVersion: Rev.5.00, Sep-2007; PackageVersion: Sep-2005; PackageReference: PRQP0100JE-B; Publisher: Altium Limited; PackageDescription: 100-Pin Plastic Quad Flat Pack, 20 x 14 x 2.7 mm Body, 0.65 mm Pitch; Code_JEITA: P-QFP100-14x20-0.65; ComponentLink1Description: Manufacturer Link; ComponentLink1URL: http://sg.renesas.com/fmwk.jsp?cnt=h8_family_landing.jsp&fp=/products/mpumcu/h8_family/; ComponentLink2Description: Datasheet; ComponentLink2URL: http://documentation.renesas.com/eng/products/mpumcu/rej09b0396_3006_7hm.pdf; ComponentLink3Description: Packaging Specification; ComponentLink3URL: http://sg.renesas.com/media/products/common_info/package/pdf/ic/code/prqp0100je_b.pdf
footprint PRQP0100JE-B_N (QFP, 100-Leads, Body 20x14mm, Pitch 0.65mm, IPC Medium Density)
footprint PRQP0100JE-B_L (QFP, 100-Leads, Body 20x14mm, Pitch 0.65mm, IPC High Density)
footprint PRQP0100JE-B_M (QFP, 100-Leads, Body 20x14mm, Pitch 0.65mm, IPC Low Density)
pins: 1 VCC (power), 2 PB0/TP8/TMO0/~{CS7} (io), 3 PB1/TP9/TMIO1/~{DREQ0}/~{CS6} (io), 4 PB2/TP10/TMO2/~{CS5} (io), 5 PB3/TP11/TMIO3/~{DREQ1}/~{CS4} (io), 6 PB4/TP12/~{UCAS} (io), 7 PB5/TP13/~{LCAS}/SCK2 (io), 8 PB6/TP14/TXD2 (io), 9 PB7/TP15/RXD2 (io), 10 RESO (in), 11 VSS (power), 12 P90/TXD0 (io), 13 P91/TXD1 (io), 14 P92/RXD0 (io), 15 P93/RXD1 (io), 16 P94/SCK0/~{IRQ4} (io), 17 P95/SCK1/~{IRQ5} (io), 18 P40/D0 (io), 19 P41/D1 (io), 20 P42/D2 (io), 21 P43/D3 (io), 22 VSS (power), 23 P44/D4 (io), 24 P45/D5 (io), 25 P46/D6 (io), 26 P47/D7 (io), 27 D8 (io), 28 D9 (io), 29 D10 (io), 30 D11 (io), 31 D12 (io), 32 D13 (io), 33 D14 (io), 34 D15 (io), 35 VCC (power), 36 A0 (io), 37 A1 (io), 38 A2 (io), 39 A3 (io), 40 A4 (io), 41 A5 (io), 42 A6 (io), 43 A7 (io), 44 VSS (power), 45 A8 (io), 46 A9 (io), 47 A10 (io), 48 A11 (io), 49 A12 (io), 50 A13 (io), 51 A14 (io), 52 A15 (io), 53 A16 (io), 54 A17 (io), 55 A18 (io), 56 A19 (io), 57 VSS (power), 58 P60/~{WAIT} (io), 59 P61/~{BREQ} (io), 60 P62/~{BACK} (io), 61 P67/Ø (io), 62 ~{STBY} (in), 63 ~{RES} (in), 64 NMI (in), 65 VSS (power), 66 EXTAL (in), 67 XTAL (in), 68 VCC (power), 69 ~{AS} (out), 70 ~{RD} (out), 71 ~{HWR} (out), 72 ~{LWR} (out), 73 MD0 (in), 74 MD1 (in), 75 MD2 (in), 76 AVCC (power), 77 VREF (power), 78 P70/AN0 (in), 79 P71/AN1 (in), 80 P72/AN2 (in), 81 P73/AN3 (in), 82 P74/AN4 (in), 83 P75/AN5 (in), 84 P76/AN6/DA0 (io), 85 P77/AN7/DA1 (io), 86 AVSS (power), 87 P80/~{IRQ0}/~{RFSH} (io), 88 P81/~{IRQ1}/~{CS3} (io), 89 P82/~{IRQ2}/~{CS2} (io), 90 P83/~{IRQ3}/~{CS1}/~{ADTRG} (io), 91 P84/~{CS0} (io), 92 VSS (power), 93 PA0/TP0/TCLKA/~{TEND0} (io), 94 PA1/TP1/TCLKB/~{TEND1} (io), 95 PA2/TP2/TIOCA0/TCLKC (io), 96 PA3/TP3/TIOCB0/TCLKD (io), 97 PA4/TP4/TIOCA1/A23 (io), 98 PA5/TP5/TIOCB1/A22 (io), 99 PA6/TP6/TIOCA2/A21 (io), 100 PA7/TP7/TIOCB2/A20 (io)

## HD6413007TE
designator U?
H8 Family 32/16-bit CISC, H8/300H, 4K RAM, 20MHz, 4.5 to 5.5V, 100-Pin QFP; Published: 28-Aug-2009; DatasheetVersion: Rev.5.00, Sep-2007; PackageVersion: Sep-2005; PackageReference: PTQP0100KA-A; Publisher: Altium Limited; PackageDescription: 100-Pin Plastic Thin Quad Flat Pack, 14 x 14 x 1.0 mm Body, 0.5 mm Pitch; Code_JEITA: P-TQFP100-14x14-0.50; ComponentLink1Description: Manufacturer Link; ComponentLink1URL: http://sg.renesas.com/fmwk.jsp?cnt=h8_family_landing.jsp&fp=/products/mpumcu/h8_family/; ComponentLink2Description: Datasheet; ComponentLink2URL: http://documentation.renesas.com/eng/products/mpumcu/rej09b0396_3006_7hm.pdf; ComponentLink3Description: Packaging Specification; ComponentLink3URL: http://sg.renesas.com/media/products/common_info/package/pdf/ic/code/ptqp0100ka_a.pdf
footprint PTQP0100KA-A_N (Thin QFP, 100-Leads, Body 14x14mm, Pitch 0.5mm, IPC Medium Density)
footprint PTQP0100KA-A_L (Thin QFP, 100-Leads, Body 14x14mm, Pitch 0.5mm, IPC High Density)
footprint PTQP0100KA-A_M (Thin QFP, 100-Leads, Body 14x14mm, Pitch 0.5mm, IPC Low Density)
pins: 1 PA6/TP6/TIOCA2/A21 (io), 2 PA7/TP7/TIOCB2/A20 (io), 3 VCC (power), 4 PB0/TP8/TMO0/~{CS7} (io), 5 PB1/TP9/TMIO1/~{DREQ0}/~{CS6} (io), 6 PB2/TP10/TMO2/~{CS5} (io), 7 PB3/TP11/TMIO3/~{DREQ1}/~{CS4} (io), 8 PB4/TP12/~{UCAS} (io), 9 PB5/TP13/~{LCAS}/SCK2 (io), 10 PB6/TP14/TXD2 (io), 11 PB7/TP15/RXD2 (io), 12 RESO (in), 13 VSS (power), 14 P90/TXD0 (io), 15 P91/TXD1 (io), 16 P92/RXD0 (io), 17 P93/RXD1 (io), 18 P94/SCK0/~{IRQ4} (io), 19 P95/SCK1/~{IRQ5} (io), 20 P40/D0 (io), 21 P41/D1 (io), 22 P42/D2 (io), 23 P43/D3 (io), 24 VSS (power), 25 P44/D4 (io), 26 P45/D5 (io), 27 P46/D6 (io), 28 P47/D7 (io), 29 D8 (io), 30 D9 (io), 31 D10 (io), 32 D11 (io), 33 D12 (io), 34 D13 (io), 35 D14 (io), 36 D15 (io), 37 VCC (power), 38 A0 (io), 39 A1 (io), 40 A2 (io), 41 A3 (io), 42 A4 (io), 43 A5 (io), 44 A6 (io), 45 A7 (io), 46 VSS (power), 47 A8 (io), 48 A9 (io), 49 A10 (io), 50 A11 (io), 51 A12 (io), 52 A13 (io), 53 A14 (io), 54 A15 (io), 55 A16 (io), 56 A17 (io), 57 A18 (io), 58 A19 (io), 59 VSS (power), 60 P60/~{WAIT} (io), 61 P61/~{BREQ} (io), 62 P62/~{BACK} (io), 63 P67/Ø (io), 64 ~{STBY} (in), 65 ~{RES} (in), 66 NMI (in), 67 VSS (power), 68 EXTAL (in), 69 XTAL (in), 70 VCC (power), 71 ~{AS} (out), 72 ~{RD} (out), 73 ~{HWR} (out), 74 ~{LWR} (out), 75 MD0 (in), 76 MD1 (in), 77 MD2 (in), 78 AVCC (power), 79 VREF (power), 80 P70/AN0 (in), 81 P71/AN1 (in), 82 P72/AN2 (in), 83 P73/AN3 (in), 84 P74/AN4 (in), 85 P75/AN5 (in), 86 P76/AN6/DA0 (io), 87 P77/AN7/DA1 (io), 88 AVSS (power), 89 P80/~{IRQ0}/~{RFSH} (io), 90 P81/~{IRQ1}/~{CS3} (io), 91 P82/~{IRQ2}/~{CS2} (io), 92 P83/~{IRQ3}/~{CS1}/~{ADTRG} (io), 93 P84/~{CS0} (io), 94 VSS (power), 95 PA0/TP0/TCLKA/~{TEND0} (io), 96 PA1/TP1/TCLKB/~{TEND1} (io), 97 PA2/TP2/TIOCA0/TCLKC (io), 98 PA3/TP3/TIOCB0/TCLKD (io), 99 PA4/TP4/TIOCA1/A23 (io), 100 PA5/TP5/TIOCB1/A22 (io)

## HD6433020XXXF
designator U?
H8 Family 32/16-bit CISC, H8/300H, 128K ROM, 4K RAM, 18MHz, 3.0 to 3.6V, 80-Pin QFP; Published: 28-Aug-2009; DatasheetVersion: Rev.2.00, Mar-2007; PackageVersion: Sep-2005; PackageReference: PRQP0080JB-A; Publisher: Altium Limited; PackageDescription: 80-Pin Plastic Quad Flat Pack, 14 x 14 x 2.7 mm Body, 0.65 mm Pitch; Code_JEITA: P-QFP80-14x14-0.65; Code_IPC: QFP65P1720X1720-80; ComponentLink1Description: Manufacturer Link; ComponentLink1URL: http://sg.renesas.com/fmwk.jsp?cnt=h8_family_landing.jsp&fp=/products/mpumcu/h8_family/; ComponentLink2Description: Datasheet; ComponentLink2URL: http://documentation.renesas.com/eng/products/mpumcu/rej09b0352_3022hm.pdf; ComponentLink3Description: Packaging Specification; ComponentLink3URL: http://sg.renesas.com/media/products/common_info/package/pdf/ic/code/prqp0080jb_a.pdf
footprint PRQP0080JB-A_N (QFP, 80-Leads, Body 14x14mm, Pitch 0.65mm, IPC Medium Density)
footprint PRQP0080JB-A_L (QFP, 80-Leads, Body 14x14mm, Pitch 0.65mm, IPC High Density)
footprint PRQP0080JB-A_M (QFP, 80-Leads, Body 14x14mm, Pitch 0.65mm, IPC Low Density)
pins: 1 PB0/TP8/TIOCA3 (io), 2 PB1/TP9/TIOCB3 (io), 3 PB2/TP10/TIOCA4 (io), 4 PB3/TP11/TIOCB4 (io), 5 PB4/TP12/TOCXA4 (io), 6 PB5/TP13/TOCXB4 (io), 7 MD2 (in), 8 PB7/TP15/~{ADTRG} (io), 9 P90/TXD0 (io), 10 P92/RXD0 (io), 11 P94/SCK0/~{IRQ4} (io), 12 VSS (power), 13 P30/D0 (io), 14 P31/D1 (io), 15 P32/D2 (io), 16 P33/D3 (io), 17 P34/D4 (io), 18 P35/D5 (io), 19 P36/D6 (io), 20 P37/D7 (io), 21 VCC (power), 22 P10/A0 (io), 23 P11/A1 (io), 24 P12/A2 (io), 25 P13/A3 (io), 26 P14/A4 (io), 27 P15/A5 (io), 28 P16/A6 (io), 29 P17/A7 (io), 30 VSS (power), 31 P20/A8 (io), 32 P21/A9 (io), 33 P22/A10 (io), 34 P23/A11 (io), 35 P24/A12 (io), 36 P25/A13 (io), 37 P26/A14 (io), 38 P27/A15 (io), 39 P50/A16 (io), 40 P51/A17 (io), 41 P52/A18 (io), 42 P53/A19 (io), 43 P60/~{WAIT} (io), 44 MD0 (in), 45 MD1 (in), 46 Ø (out), 47 ~{STBY} (in), 48 ~{RES} (in), 49 NMI (in), 50 VSS (power), 51 EXTAL (in), 52 XTAL (in), 53 VCC (power), 54 P63/~{AS} (io), 55 P64/~{RD} (io), 56 P65/~{WR} (io), 57 ~{RESO} (out), 58 AVSS (power), 59 P70/AN0 (in), 60 P71/AN1 (in), 61 P72/AN2 (in), 62 P73/AN3 (in), 63 P74/AN4 (in), 64 P75/AN5 (in), 65 P76/AN6 (in), 66 P77/AN7 (in), 67 AVCC (power), 68 P80/~{IRQ0} (io), 69 P81/~{IRQ1} (io), 70 P91/TXD1 (io), 71 P93/RXD1 (io), 72 P95/SCK1/~{IRQ5} (io), 73 PA0/TP0/TCLKA (io), 74 PA1/TP1/TCLKB (io), 75 PA2/TP2/TIOCA0/TCLKC (io), 76 PA3/TP3/TIOCB0/TCLKD (io), 77 PA4/TP4/TIOCA1/A23 (io), 78 PA5/TP5/TIOCB1/A22 (io), 79 PA6/TP6/TIOCA2/A21 (io), 80 PA7/TP7/TIOCB2/A20 (io)

## HD6433020XXXTE
designator U?
H8 Family 32/16-bit CISC, H8/300H, 128K ROM, 4K RAM, 18MHz, 3.0 to 3.6V, 80-Pin QFP; Published: 28-Aug-2009; DatasheetVersion: Rev.2.00, Mar-2007; PackageVersion: Sep-2005; PackageReference: PTQP0080KC-A; Publisher: Altium Limited; PackageDescription: 80-Pin Plastic Thin Quad Flat Pack, 12 x 12 x 1.0 mm Body, 0.5 mm Pitch; Code_JEITA: P-TQFP80-12x12-0.50; ComponentLink1Description: Manufacturer Link; ComponentLink1URL: http://sg.renesas.com/fmwk.jsp?cnt=h8_family_landing.jsp&fp=/products/mpumcu/h8_family/; ComponentLink2Description: Datasheet; ComponentLink2URL: http://documentation.renesas.com/eng/products/mpumcu/rej09b0352_3022hm.pdf; ComponentLink3Description: Packaging Specification; ComponentLink3URL: http://sg.renesas.com/media/products/common_info/package/pdf/ic/code/ptqp0080kc_a.pdf
footprint PTQP0080KC-A_N (Thin QFP, 80-Leads, Body 12x12mm, Pitch 0.5mm, IPC Medium Density)
footprint PTQP0080KC-A_L (Thin QFP, 80-Leads, Body 12x12mm, Pitch 0.5mm, IPC High Density)
footprint PTQP0080KC-A_M (Thin QFP, 80-Leads, Body 12x12mm, Pitch 0.5mm, IPC Low Density)
pins: 1 PB0/TP8/TIOCA3 (io), 2 PB1/TP9/TIOCB3 (io), 3 PB2/TP10/TIOCA4 (io), 4 PB3/TP11/TIOCB4 (io), 5 PB4/TP12/TOCXA4 (io), 6 PB5/TP13/TOCXB4 (io), 7 MD2 (in), 8 PB7/TP15/~{ADTRG} (io), 9 P90/TXD0 (io), 10 P92/RXD0 (io), 11 P94/SCK0/~{IRQ4} (io), 12 VSS (power), 13 P30/D0 (io), 14 P31/D1 (io), 15 P32/D2 (io), 16 P33/D3 (io), 17 P34/D4 (io), 18 P35/D5 (io), 19 P36/D6 (io), 20 P37/D7 (io), 21 VCC (power), 22 P10/A0 (io), 23 P11/A1 (io), 24 P12/A2 (io), 25 P13/A3 (io), 26 P14/A4 (io), 27 P15/A5 (io), 28 P16/A6 (io), 29 P17/A7 (io), 30 VSS (power), 31 P20/A8 (io), 32 P21/A9 (io), 33 P22/A10 (io), 34 P23/A11 (io), 35 P24/A12 (io), 36 P25/A13 (io), 37 P26/A14 (io), 38 P27/A15 (io), 39 P50/A16 (io), 40 P51/A17 (io), 41 P52/A18 (io), 42 P53/A19 (io), 43 P60/~{WAIT} (io), 44 MD0 (in), 45 MD1 (in), 46 Ø (out), 47 ~{STBY} (in), 48 ~{RES} (in), 49 NMI (in), 50 VSS (power), 51 EXTAL (in), 52 XTAL (in), 53 VCC (power), 54 P63/~{AS} (io), 55 P64/~{RD} (io), 56 P65/~{WR} (io), 57 ~{RESO} (out), 58 AVSS (power), 59 P70/AN0 (in), 60 P71/AN1 (in), 61 P72/AN2 (in), 62 P73/AN3 (in), 63 P74/AN4 (in), 64 P75/AN5 (in), 65 P76/AN6 (in), 66 P77/AN7 (in), 67 AVCC (power), 68 P80/~{IRQ0} (io), 69 P81/~{IRQ1} (io), 70 P91/TXD1 (io), 71 P93/RXD1 (io), 72 P95/SCK1/~{IRQ5} (io), 73 PA0/TP0/TCLKA (io), 74 PA1/TP1/TCLKB (io), 75 PA2/TP2/TIOCA0/TCLKC (io), 76 PA3/TP3/TIOCB0/TCLKD (io), 77 PA4/TP4/TIOCA1/A23 (io), 78 PA5/TP5/TIOCB1/A22 (io), 79 PA6/TP6/TIOCA2/A21 (io), 80 PA7/TP7/TIOCB2/A20 (io)

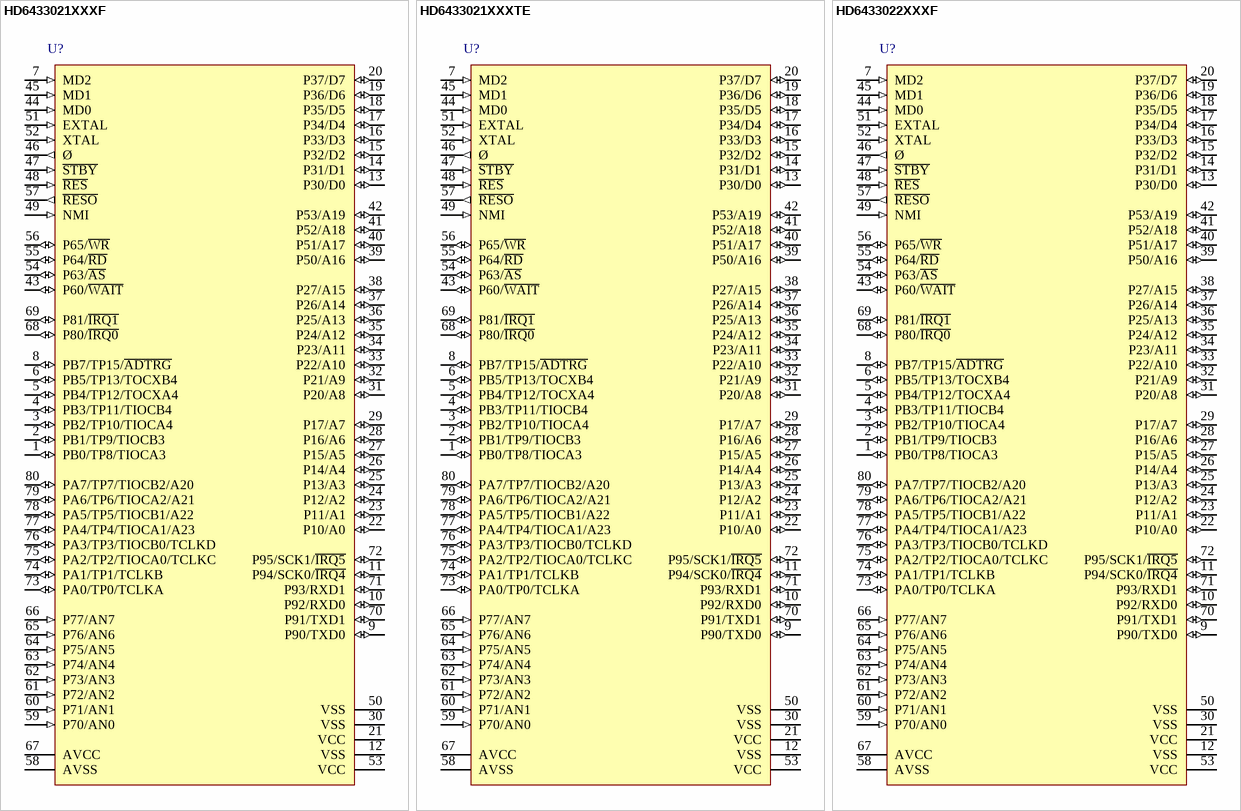
[diagram p35: symbols HD6433021XXXF to HD6433022XXXF]

## HD6433021XXXF
designator U?
H8 Family 32/16-bit CISC, H8/300H, 192K ROM, 8K RAM, 18MHz, 3.0 to 3.6V, 80-Pin QFP; Published: 28-Aug-2009; DatasheetVersion: Rev.2.00, Mar-2007; PackageVersion: Sep-2005; PackageReference: PRQP0080JB-A; Publisher: Altium Limited; PackageDescription: 80-Pin Plastic Quad Flat Pack, 14 x 14 x 2.7 mm Body, 0.65 mm Pitch; Code_JEITA: P-QFP80-14x14-0.65; Code_IPC: QFP65P1720X1720-80; ComponentLink1Description: Manufacturer Link; ComponentLink1URL: http://sg.renesas.com/fmwk.jsp?cnt=h8_family_landing.jsp&fp=/products/mpumcu/h8_family/; ComponentLink2Description: Datasheet; ComponentLink2URL: http://documentation.renesas.com/eng/products/mpumcu/rej09b0352_3022hm.pdf; ComponentLink3Description: Packaging Specification; ComponentLink3URL: http://sg.renesas.com/media/products/common_info/package/pdf/ic/code/prqp0080jb_a.pdf
footprint PRQP0080JB-A_N (QFP, 80-Leads, Body 14x14mm, Pitch 0.65mm, IPC Medium Density)
footprint PRQP0080JB-A_L (QFP, 80-Leads, Body 14x14mm, Pitch 0.65mm, IPC High Density)
footprint PRQP0080JB-A_M (QFP, 80-Leads, Body 14x14mm, Pitch 0.65mm, IPC Low Density)
pins: 1 PB0/TP8/TIOCA3 (io), 2 PB1/TP9/TIOCB3 (io), 3 PB2/TP10/TIOCA4 (io), 4 PB3/TP11/TIOCB4 (io), 5 PB4/TP12/TOCXA4 (io), 6 PB5/TP13/TOCXB4 (io), 7 MD2 (in), 8 PB7/TP15/~{ADTRG} (io), 9 P90/TXD0 (io), 10 P92/RXD0 (io), 11 P94/SCK0/~{IRQ4} (io), 12 VSS (power), 13 P30/D0 (io), 14 P31/D1 (io), 15 P32/D2 (io), 16 P33/D3 (io), 17 P34/D4 (io), 18 P35/D5 (io), 19 P36/D6 (io), 20 P37/D7 (io), 21 VCC (power), 22 P10/A0 (io), 23 P11/A1 (io), 24 P12/A2 (io), 25 P13/A3 (io), 26 P14/A4 (io), 27 P15/A5 (io), 28 P16/A6 (io), 29 P17/A7 (io), 30 VSS (power), 31 P20/A8 (io), 32 P21/A9 (io), 33 P22/A10 (io), 34 P23/A11 (io), 35 P24/A12 (io), 36 P25/A13 (io), 37 P26/A14 (io), 38 P27/A15 (io), 39 P50/A16 (io), 40 P51/A17 (io), 41 P52/A18 (io), 42 P53/A19 (io), 43 P60/~{WAIT} (io), 44 MD0 (in), 45 MD1 (in), 46 Ø (out), 47 ~{STBY} (in), 48 ~{RES} (in), 49 NMI (in), 50 VSS (power), 51 EXTAL (in), 52 XTAL (in), 53 VCC (power), 54 P63/~{AS} (io), 55 P64/~{RD} (io), 56 P65/~{WR} (io), 57 ~{RESO} (out), 58 AVSS (power), 59 P70/AN0 (in), 60 P71/AN1 (in), 61 P72/AN2 (in), 62 P73/AN3 (in), 63 P74/AN4 (in), 64 P75/AN5 (in), 65 P76/AN6 (in), 66 P77/AN7 (in), 67 AVCC (power), 68 P80/~{IRQ0} (io), 69 P81/~{IRQ1} (io), 70 P91/TXD1 (io), 71 P93/RXD1 (io), 72 P95/SCK1/~{IRQ5} (io), 73 PA0/TP0/TCLKA (io), 74 PA1/TP1/TCLKB (io), 75 PA2/TP2/TIOCA0/TCLKC (io), 76 PA3/TP3/TIOCB0/TCLKD (io), 77 PA4/TP4/TIOCA1/A23 (io), 78 PA5/TP5/TIOCB1/A22 (io), 79 PA6/TP6/TIOCA2/A21 (io), 80 PA7/TP7/TIOCB2/A20 (io)

## HD6433021XXXTE
designator U?
H8 Family 32/16-bit CISC, H8/300H, 192K ROM, 8K RAM, 18MHz, 3.0 to 3.6V, 80-Pin QFP; Published: 28-Aug-2009; DatasheetVersion: Rev.2.00, Mar-2007; PackageVersion: Sep-2005; PackageReference: PTQP0080KC-A; Publisher: Altium Limited; PackageDescription: 80-Pin Plastic Thin Quad Flat Pack, 12 x 12 x 1.0 mm Body, 0.5 mm Pitch; Code_JEITA: P-TQFP80-12x12-0.50; ComponentLink1Description: Manufacturer Link; ComponentLink1URL: http://sg.renesas.com/fmwk.jsp?cnt=h8_family_landing.jsp&fp=/products/mpumcu/h8_family/; ComponentLink2Description: Datasheet; ComponentLink2URL: http://documentation.renesas.com/eng/products/mpumcu/rej09b0352_3022hm.pdf; ComponentLink3Description: Packaging Specification; ComponentLink3URL: http://sg.renesas.com/media/products/common_info/package/pdf/ic/code/ptqp0080kc_a.pdf
footprint PTQP0080KC-A_N (Thin QFP, 80-Leads, Body 12x12mm, Pitch 0.5mm, IPC Medium Density)
footprint PTQP0080KC-A_L (Thin QFP, 80-Leads, Body 12x12mm, Pitch 0.5mm, IPC High Density)
footprint PTQP0080KC-A_M (Thin QFP, 80-Leads, Body 12x12mm, Pitch 0.5mm, IPC Low Density)
pins: 1 PB0/TP8/TIOCA3 (io), 2 PB1/TP9/TIOCB3 (io), 3 PB2/TP10/TIOCA4 (io), 4 PB3/TP11/TIOCB4 (io), 5 PB4/TP12/TOCXA4 (io), 6 PB5/TP13/TOCXB4 (io), 7 MD2 (in), 8 PB7/TP15/~{ADTRG} (io), 9 P90/TXD0 (io), 10 P92/RXD0 (io), 11 P94/SCK0/~{IRQ4} (io), 12 VSS (power), 13 P30/D0 (io), 14 P31/D1 (io), 15 P32/D2 (io), 16 P33/D3 (io), 17 P34/D4 (io), 18 P35/D5 (io), 19 P36/D6 (io), 20 P37/D7 (io), 21 VCC (power), 22 P10/A0 (io), 23 P11/A1 (io), 24 P12/A2 (io), 25 P13/A3 (io), 26 P14/A4 (io), 27 P15/A5 (io), 28 P16/A6 (io), 29 P17/A7 (io), 30 VSS (power), 31 P20/A8 (io), 32 P21/A9 (io), 33 P22/A10 (io), 34 P23/A11 (io), 35 P24/A12 (io), 36 P25/A13 (io), 37 P26/A14 (io), 38 P27/A15 (io), 39 P50/A16 (io), 40 P51/A17 (io), 41 P52/A18 (io), 42 P53/A19 (io), 43 P60/~{WAIT} (io), 44 MD0 (in), 45 MD1 (in), 46 Ø (out), 47 ~{STBY} (in), 48 ~{RES} (in), 49 NMI (in), 50 VSS (power), 51 EXTAL (in), 52 XTAL (in), 53 VCC (power), 54 P63/~{AS} (io), 55 P64/~{RD} (io), 56 P65/~{WR} (io), 57 ~{RESO} (out), 58 AVSS (power), 59 P70/AN0 (in), 60 P71/AN1 (in), 61 P72/AN2 (in), 62 P73/AN3 (in), 63 P74/AN4 (in), 64 P75/AN5 (in), 65 P76/AN6 (in), 66 P77/AN7 (in), 67 AVCC (power), 68 P80/~{IRQ0} (io), 69 P81/~{IRQ1} (io), 70 P91/TXD1 (io), 71 P93/RXD1 (io), 72 P95/SCK1/~{IRQ5} (io), 73 PA0/TP0/TCLKA (io), 74 PA1/TP1/TCLKB (io), 75 PA2/TP2/TIOCA0/TCLKC (io), 76 PA3/TP3/TIOCB0/TCLKD (io), 77 PA4/TP4/TIOCA1/A23 (io), 78 PA5/TP5/TIOCB1/A22 (io), 79 PA6/TP6/TIOCA2/A21 (io), 80 PA7/TP7/TIOCB2/A20 (io)

## HD6433022XXXF
designator U?
H8 Family 32/16-bit CISC, H8/300H, 256K ROM, 8K RAM, 18MHz, 3.0 to 3.6V, 80-Pin QFP; Published: 28-Aug-2009; DatasheetVersion: Rev.2.00, Mar-2007; PackageVersion: Sep-2005; PackageReference: PRQP0080JB-A; Publisher: Altium Limited; PackageDescription: 80-Pin Plastic Quad Flat Pack, 14 x 14 x 2.7 mm Body, 0.65 mm Pitch; Code_JEITA: P-QFP80-14x14-0.65; Code_IPC: QFP65P1720X1720-80; ComponentLink1Description: Manufacturer Link; ComponentLink1URL: http://sg.renesas.com/fmwk.jsp?cnt=h8_family_landing.jsp&fp=/products/mpumcu/h8_family/; ComponentLink2Description: Datasheet; ComponentLink2URL: http://documentation.renesas.com/eng/products/mpumcu/rej09b0352_3022hm.pdf; ComponentLink3Description: Packaging Specification; ComponentLink3URL: http://sg.renesas.com/media/products/common_info/package/pdf/ic/code/prqp0080jb_a.pdf
footprint PRQP0080JB-A_N (QFP, 80-Leads, Body 14x14mm, Pitch 0.65mm, IPC Medium Density)
footprint PRQP0080JB-A_L (QFP, 80-Leads, Body 14x14mm, Pitch 0.65mm, IPC High Density)
footprint PRQP0080JB-A_M (QFP, 80-Leads, Body 14x14mm, Pitch 0.65mm, IPC Low Density)
pins: 1 PB0/TP8/TIOCA3 (io), 2 PB1/TP9/TIOCB3 (io), 3 PB2/TP10/TIOCA4 (io), 4 PB3/TP11/TIOCB4 (io), 5 PB4/TP12/TOCXA4 (io), 6 PB5/TP13/TOCXB4 (io), 7 MD2 (in), 8 PB7/TP15/~{ADTRG} (io), 9 P90/TXD0 (io), 10 P92/RXD0 (io), 11 P94/SCK0/~{IRQ4} (io), 12 VSS (power), 13 P30/D0 (io), 14 P31/D1 (io), 15 P32/D2 (io), 16 P33/D3 (io), 17 P34/D4 (io), 18 P35/D5 (io), 19 P36/D6 (io), 20 P37/D7 (io), 21 VCC (power), 22 P10/A0 (io), 23 P11/A1 (io), 24 P12/A2 (io), 25 P13/A3 (io), 26 P14/A4 (io), 27 P15/A5 (io), 28 P16/A6 (io), 29 P17/A7 (io), 30 VSS (power), 31 P20/A8 (io), 32 P21/A9 (io), 33 P22/A10 (io), 34 P23/A11 (io), 35 P24/A12 (io), 36 P25/A13 (io), 37 P26/A14 (io), 38 P27/A15 (io), 39 P50/A16 (io), 40 P51/A17 (io), 41 P52/A18 (io), 42 P53/A19 (io), 43 P60/~{WAIT} (io), 44 MD0 (in), 45 MD1 (in), 46 Ø (out), 47 ~{STBY} (in), 48 ~{RES} (in), 49 NMI (in), 50 VSS (power), 51 EXTAL (in), 52 XTAL (in), 53 VCC (power), 54 P63/~{AS} (io), 55 P64/~{RD} (io), 56 P65/~{WR} (io), 57 ~{RESO} (out), 58 AVSS (power), 59 P70/AN0 (in), 60 P71/AN1 (in), 61 P72/AN2 (in), 62 P73/AN3 (in), 63 P74/AN4 (in), 64 P75/AN5 (in), 65 P76/AN6 (in), 66 P77/AN7 (in), 67 AVCC (power), 68 P80/~{IRQ0} (io), 69 P81/~{IRQ1} (io), 70 P91/TXD1 (io), 71 P93/RXD1 (io), 72 P95/SCK1/~{IRQ5} (io), 73 PA0/TP0/TCLKA (io), 74 PA1/TP1/TCLKB (io), 75 PA2/TP2/TIOCA0/TCLKC (io), 76 PA3/TP3/TIOCB0/TCLKD (io), 77 PA4/TP4/TIOCA1/A23 (io), 78 PA5/TP5/TIOCB1/A22 (io), 79 PA6/TP6/TIOCA2/A21 (io), 80 PA7/TP7/TIOCB2/A20 (io)

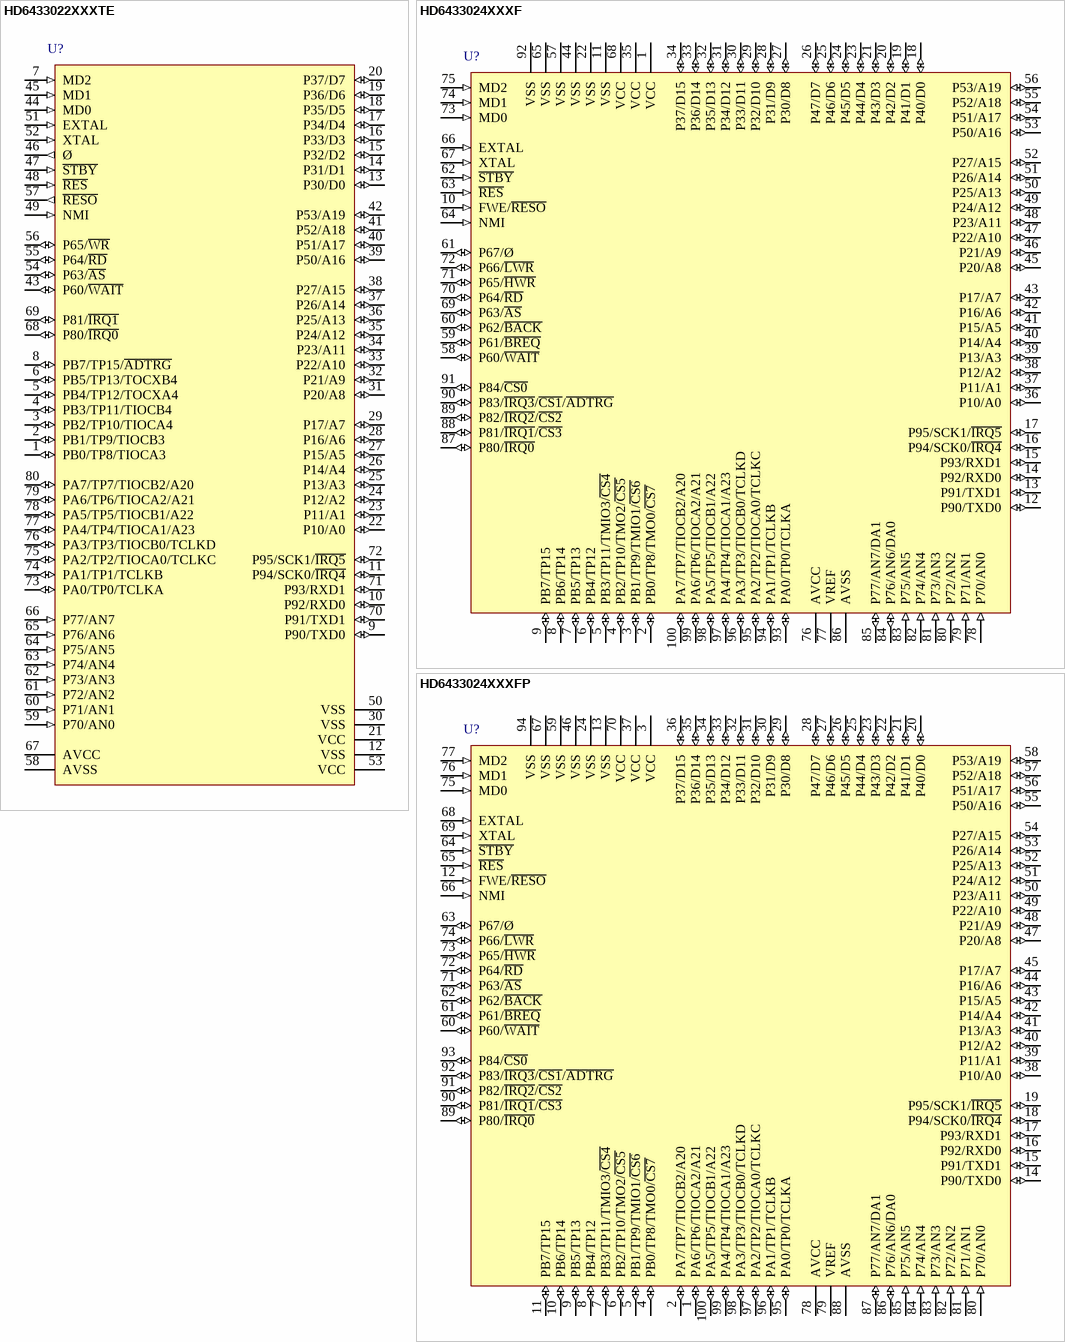
[diagram p36: symbols HD6433022XXXTE to HD6433024XXXFP]

## HD6433022XXXTE
designator U?
H8 Family 32/16-bit CISC, H8/300H, 256K ROM, 8K RAM, 18MHz, 3.0 to 3.6V, 80-Pin QFP; Published: 28-Aug-2009; DatasheetVersion: Rev.2.00, Mar-2007; PackageVersion: Sep-2005; PackageReference: PTQP0080KC-A; Publisher: Altium Limited; PackageDescription: 80-Pin Plastic Thin Quad Flat Pack, 12 x 12 x 1.0 mm Body, 0.5 mm Pitch; Code_JEITA: P-TQFP80-12x12-0.50; ComponentLink1Description: Manufacturer Link; ComponentLink1URL: http://sg.renesas.com/fmwk.jsp?cnt=h8_family_landing.jsp&fp=/products/mpumcu/h8_family/; ComponentLink2Description: Datasheet; ComponentLink2URL: http://documentation.renesas.com/eng/products/mpumcu/rej09b0352_3022hm.pdf; ComponentLink3Description: Packaging Specification; ComponentLink3URL: http://sg.renesas.com/media/products/common_info/package/pdf/ic/code/ptqp0080kc_a.pdf
footprint PTQP0080KC-A_N (Thin QFP, 80-Leads, Body 12x12mm, Pitch 0.5mm, IPC Medium Density)
footprint PTQP0080KC-A_L (Thin QFP, 80-Leads, Body 12x12mm, Pitch 0.5mm, IPC High Density)
footprint PTQP0080KC-A_M (Thin QFP, 80-Leads, Body 12x12mm, Pitch 0.5mm, IPC Low Density)
pins: 1 PB0/TP8/TIOCA3 (io), 2 PB1/TP9/TIOCB3 (io), 3 PB2/TP10/TIOCA4 (io), 4 PB3/TP11/TIOCB4 (io), 5 PB4/TP12/TOCXA4 (io), 6 PB5/TP13/TOCXB4 (io), 7 MD2 (in), 8 PB7/TP15/~{ADTRG} (io), 9 P90/TXD0 (io), 10 P92/RXD0 (io), 11 P94/SCK0/~{IRQ4} (io), 12 VSS (power), 13 P30/D0 (io), 14 P31/D1 (io), 15 P32/D2 (io), 16 P33/D3 (io), 17 P34/D4 (io), 18 P35/D5 (io), 19 P36/D6 (io), 20 P37/D7 (io), 21 VCC (power), 22 P10/A0 (io), 23 P11/A1 (io), 24 P12/A2 (io), 25 P13/A3 (io), 26 P14/A4 (io), 27 P15/A5 (io), 28 P16/A6 (io), 29 P17/A7 (io), 30 VSS (power), 31 P20/A8 (io), 32 P21/A9 (io), 33 P22/A10 (io), 34 P23/A11 (io), 35 P24/A12 (io), 36 P25/A13 (io), 37 P26/A14 (io), 38 P27/A15 (io), 39 P50/A16 (io), 40 P51/A17 (io), 41 P52/A18 (io), 42 P53/A19 (io), 43 P60/~{WAIT} (io), 44 MD0 (in), 45 MD1 (in), 46 Ø (out), 47 ~{STBY} (in), 48 ~{RES} (in), 49 NMI (in), 50 VSS (power), 51 EXTAL (in), 52 XTAL (in), 53 VCC (power), 54 P63/~{AS} (io), 55 P64/~{RD} (io), 56 P65/~{WR} (io), 57 ~{RESO} (out), 58 AVSS (power), 59 P70/AN0 (in), 60 P71/AN1 (in), 61 P72/AN2 (in), 62 P73/AN3 (in), 63 P74/AN4 (in), 64 P75/AN5 (in), 65 P76/AN6 (in), 66 P77/AN7 (in), 67 AVCC (power), 68 P80/~{IRQ0} (io), 69 P81/~{IRQ1} (io), 70 P91/TXD1 (io), 71 P93/RXD1 (io), 72 P95/SCK1/~{IRQ5} (io), 73 PA0/TP0/TCLKA (io), 74 PA1/TP1/TCLKB (io), 75 PA2/TP2/TIOCA0/TCLKC (io), 76 PA3/TP3/TIOCB0/TCLKD (io), 77 PA4/TP4/TIOCA1/A23 (io), 78 PA5/TP5/TIOCB1/A22 (io), 79 PA6/TP6/TIOCA2/A21 (io), 80 PA7/TP7/TIOCB2/A20 (io)

## HD6433024XXXF
designator U?
H8 Family 32/16-bit CISC, H8/300H, 128K ROM, 4K RAM, 25MHz, 3.0 to 3.6V, 100-Pin QFP; Published: 28-Aug-2009; DatasheetVersion: Rev.2.00, Sep-2005; PackageVersion: Sep-2009; PackageReference: PRQP0100KA-A; Publisher: Altium Limited; PackageDescription: 100-Pin Plastic Quad Flat Pack, 14 x 14 x 2.7 mm Body, 0.5 mm Pitch; Code_JEITA: P-QFP100-14x14-0.50; ComponentLink1Description: Manufacturer Link; ComponentLink1URL: http://sg.renesas.com/fmwk.jsp?cnt=h8_family_landing.jsp&fp=/products/mpumcu/h8_family/; ComponentLink2Description: Datasheet; ComponentLink2URL: http://documentation.renesas.com/eng/products/mpumcu/rej09b0260_3024hm.pdf; ComponentLink3Description: Packaging Specification; ComponentLink3URL: http://sg.renesas.com/media/products/common_info/package/pdf/ic/code/prqp0100ka_a.pdf
footprint PRQP0100KA-A_N (Shrink QFP, 100-Leads, Body 14x14mm, Pitch 0.5mm, IPC Medium Density)
footprint PRQP0100KA-A_L (Shrink QFP, 100-Leads, Body 14x14mm, Pitch 0.5mm, IPC High Density)
footprint PRQP0100KA-A_M (Shrink QFP, 100-Leads, Body 14x14mm, Pitch 0.5mm, IPC Low Density)
pins: 1 VCC (power), 2 PB0/TP8/TMO0/~{CS7} (io), 3 PB1/TP9/TMIO1/~{CS6} (io), 4 PB2/TP10/TMO2/~{CS5} (io), 5 PB3/TP11/TMIO3/~{CS4} (io), 6 PB4/TP12 (io), 7 PB5/TP13 (io), 8 PB6/TP14 (io), 9 PB7/TP15 (io), 10 FWE/~{RESO} (in), 11 VSS (power), 12 P90/TXD0 (io), 13 P91/TXD1 (io), 14 P92/RXD0 (io), 15 P93/RXD1 (io), 16 P94/SCK0/~{IRQ4} (io), 17 P95/SCK1/~{IRQ5} (io), 18 P40/D0 (io), 19 P41/D1 (io), 20 P42/D2 (io), 21 P43/D3 (io), 22 VSS (power), 23 P44/D4 (io), 24 P45/D5 (io), 25 P46/D6 (io), 26 P47/D7 (io), 27 P30/D8 (io), 28 P31/D9 (io), 29 P32/D10 (io), 30 P33/D11 (io), 31 P34/D12 (io), 32 P35/D13 (io), 33 P36/D14 (io), 34 P37/D15 (io), 35 VCC (power), 36 P10/A0 (io), 37 P11/A1 (io), 38 P12/A2 (io), 39 P13/A3 (io), 40 P14/A4 (io), 41 P15/A5 (io), 42 P16/A6 (io), 43 P17/A7 (io), 44 VSS (power), 45 P20/A8 (io), 46 P21/A9 (io), 47 P22/A10 (io), 48 P23/A11 (io), 49 P24/A12 (io), 50 P25/A13 (io), 51 P26/A14 (io), 52 P27/A15 (io), 53 P50/A16 (io), 54 P51/A17 (io), 55 P52/A18 (io), 56 P53/A19 (io), 57 VSS (power), 58 P60/~{WAIT} (io), 59 P61/~{BREQ} (io), 60 P62/~{BACK} (io), 61 P67/Ø (io), 62 ~{STBY} (in), 63 ~{RES} (in), 64 NMI (in), 65 VSS (power), 66 EXTAL (in), 67 XTAL (in), 68 VCC (power), 69 P63/~{AS} (io), 70 P64/~{RD} (io), 71 P65/~{HWR} (io), 72 P66/~{LWR} (io), 73 MD0 (in), 74 MD1 (in), 75 MD2 (in), 76 AVCC (power), 77 VREF (power), 78 P70/AN0 (in), 79 P71/AN1 (in), 80 P72/AN2 (in), 81 P73/AN3 (in), 82 P74/AN4 (in), 83 P75/AN5 (in), 84 P76/AN6/DA0 (io), 85 P77/AN7/DA1 (io), 86 AVSS (power), 87 P80/~{IRQ0} (io), 88 P81/~{IRQ1}/~{CS3} (io), 89 P82/~{IRQ2}/~{CS2} (io), 90 P83/~{IRQ3}/~{CS1}/~{ADTRG} (io), 91 P84/~{CS0} (io), 92 VSS (power), 93 PA0/TP0/TCLKA (io), 94 PA1/TP1/TCLKB (io), 95 PA2/TP2/TIOCA0/TCLKC (io), 96 PA3/TP3/TIOCB0/TCLKD (io), 97 PA4/TP4/TIOCA1/A23 (io), 98 PA5/TP5/TIOCB1/A22 (io), 99 PA6/TP6/TIOCA2/A21 (io), 100 PA7/TP7/TIOCB2/A20 (io)